# Altium schematic symbol library IC.SchLib: 114 symbols (part 1 of 2)
Pins are listed as number, name and electrical type; pins without a type are passive.

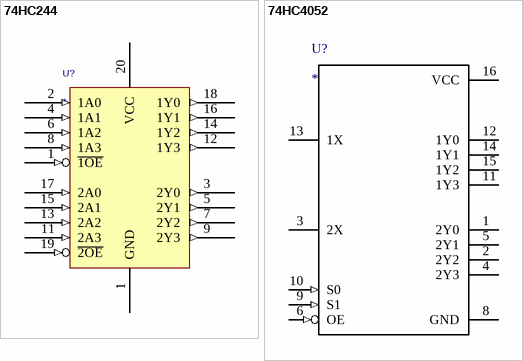
[diagram p0: symbols 74HC244 to 74HC4052]

## 74HC244
designator U?
Octal buffer/line driver; 3-state
pins: 1 ~{1OE} (in), 1 GND, 2 1A0 (in), 3 2Y0 (out), 4 1A1 (in), 5 2Y1 (out), 6 1A2 (in), 7 2Y2 (out), 8 1A3 (in), 9 2Y3 (out), 11 2A3 (in), 12 1Y3 (out), 13 2A2 (in), 14 1Y2 (out), 15 2A1 (in), 16 1Y1 (out), 17 2A0 (in), 18 1Y0 (out), 19 ~{2OE} (in), 20 VCC

## 74HC4052
designator U?
pins: 1 2Y0, 2 2Y2, 3 2X, 4 2Y3, 5 2Y1, 6 OE (in), 8 GND (power), 9 S1 (in), 10 S0 (in), 11 1Y3, 12 1Y0, 13 1X, 14 1Y1, 15 1Y2, 16 VCC (power)

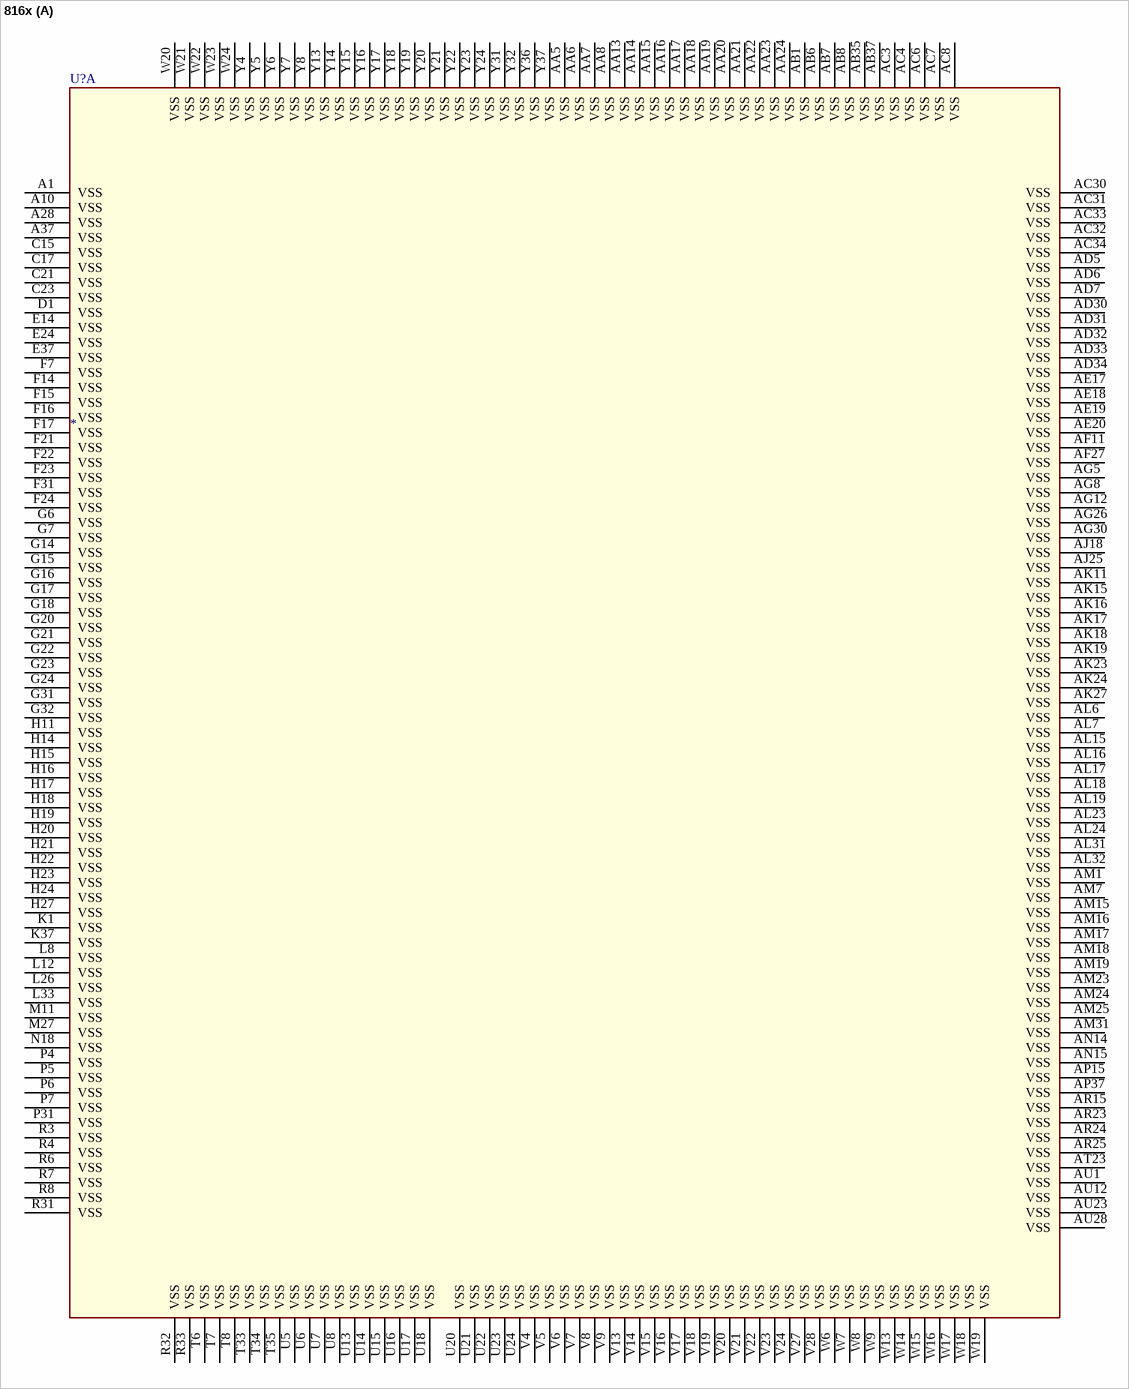
[diagram p1: symbol 816x]

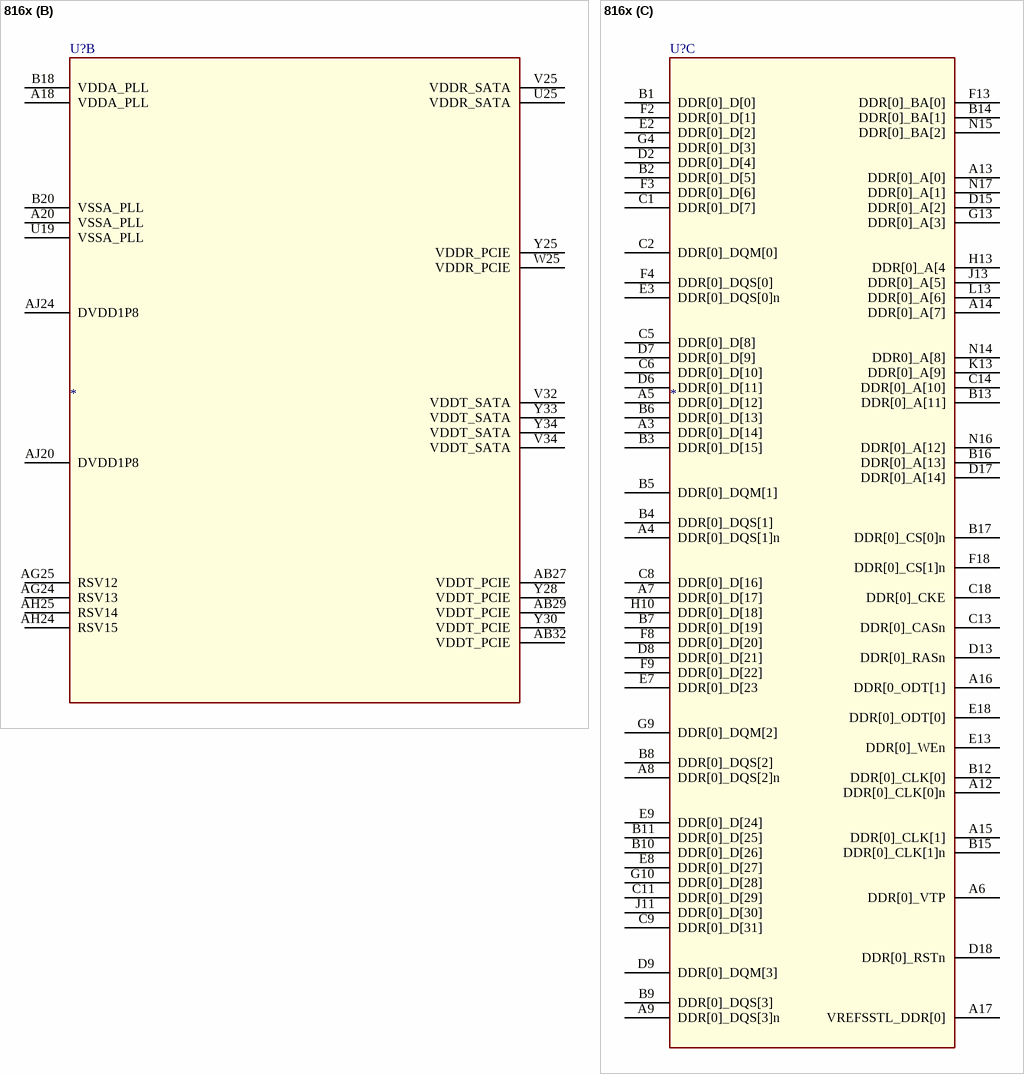
[diagram p2: symbol 816x]

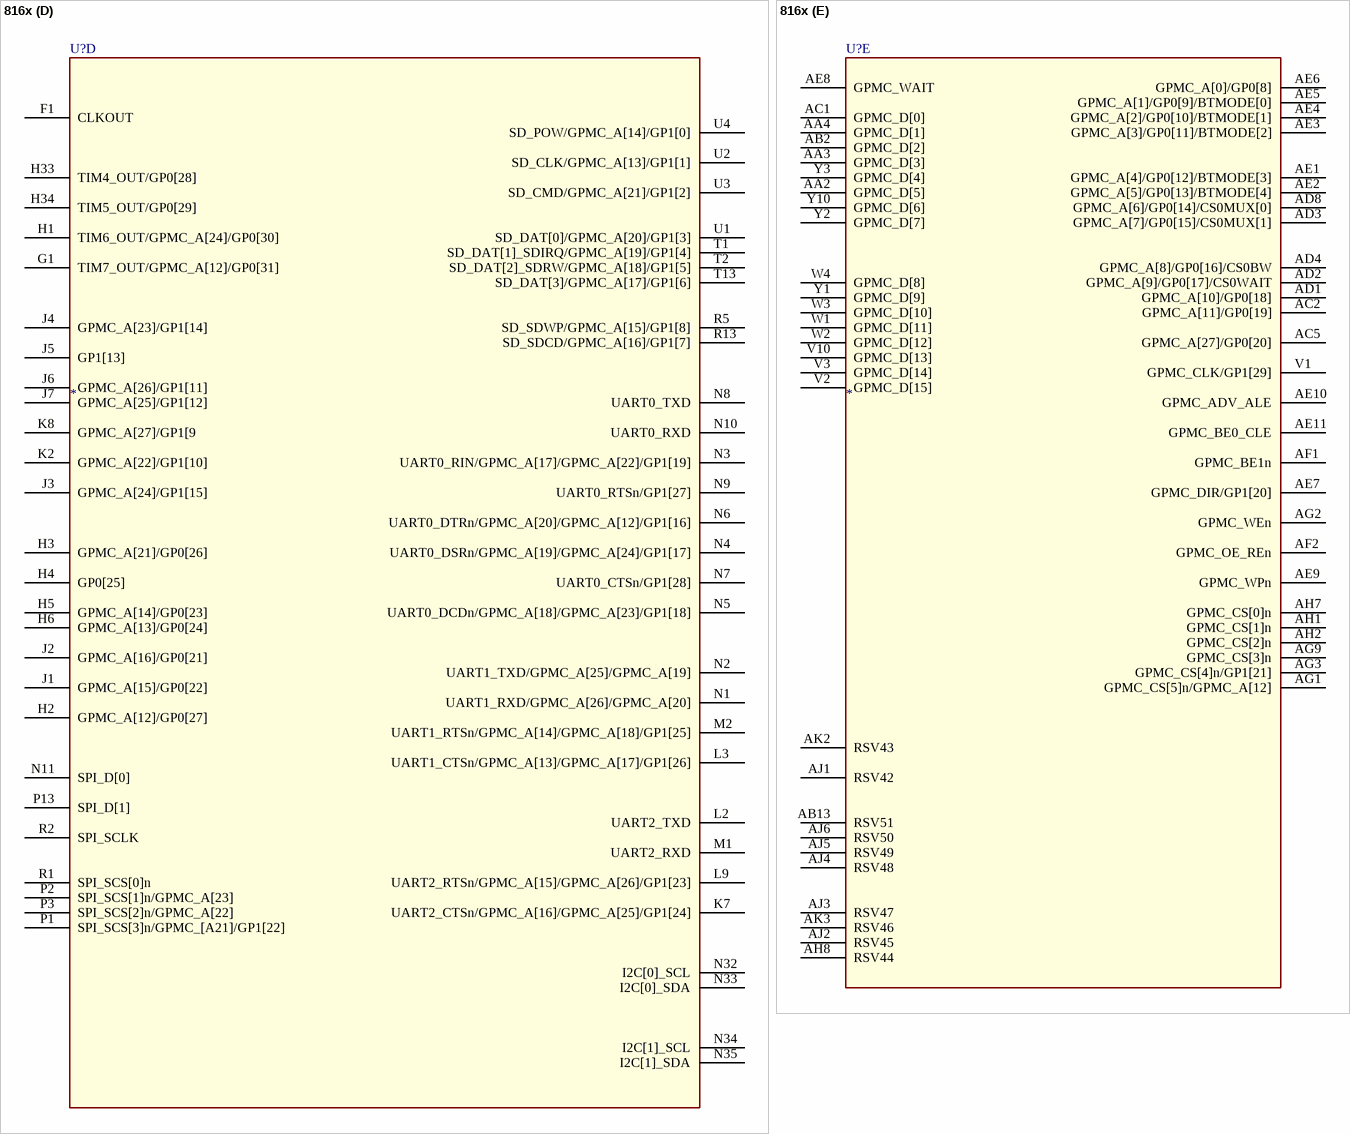
[diagram p3: symbol 816x]

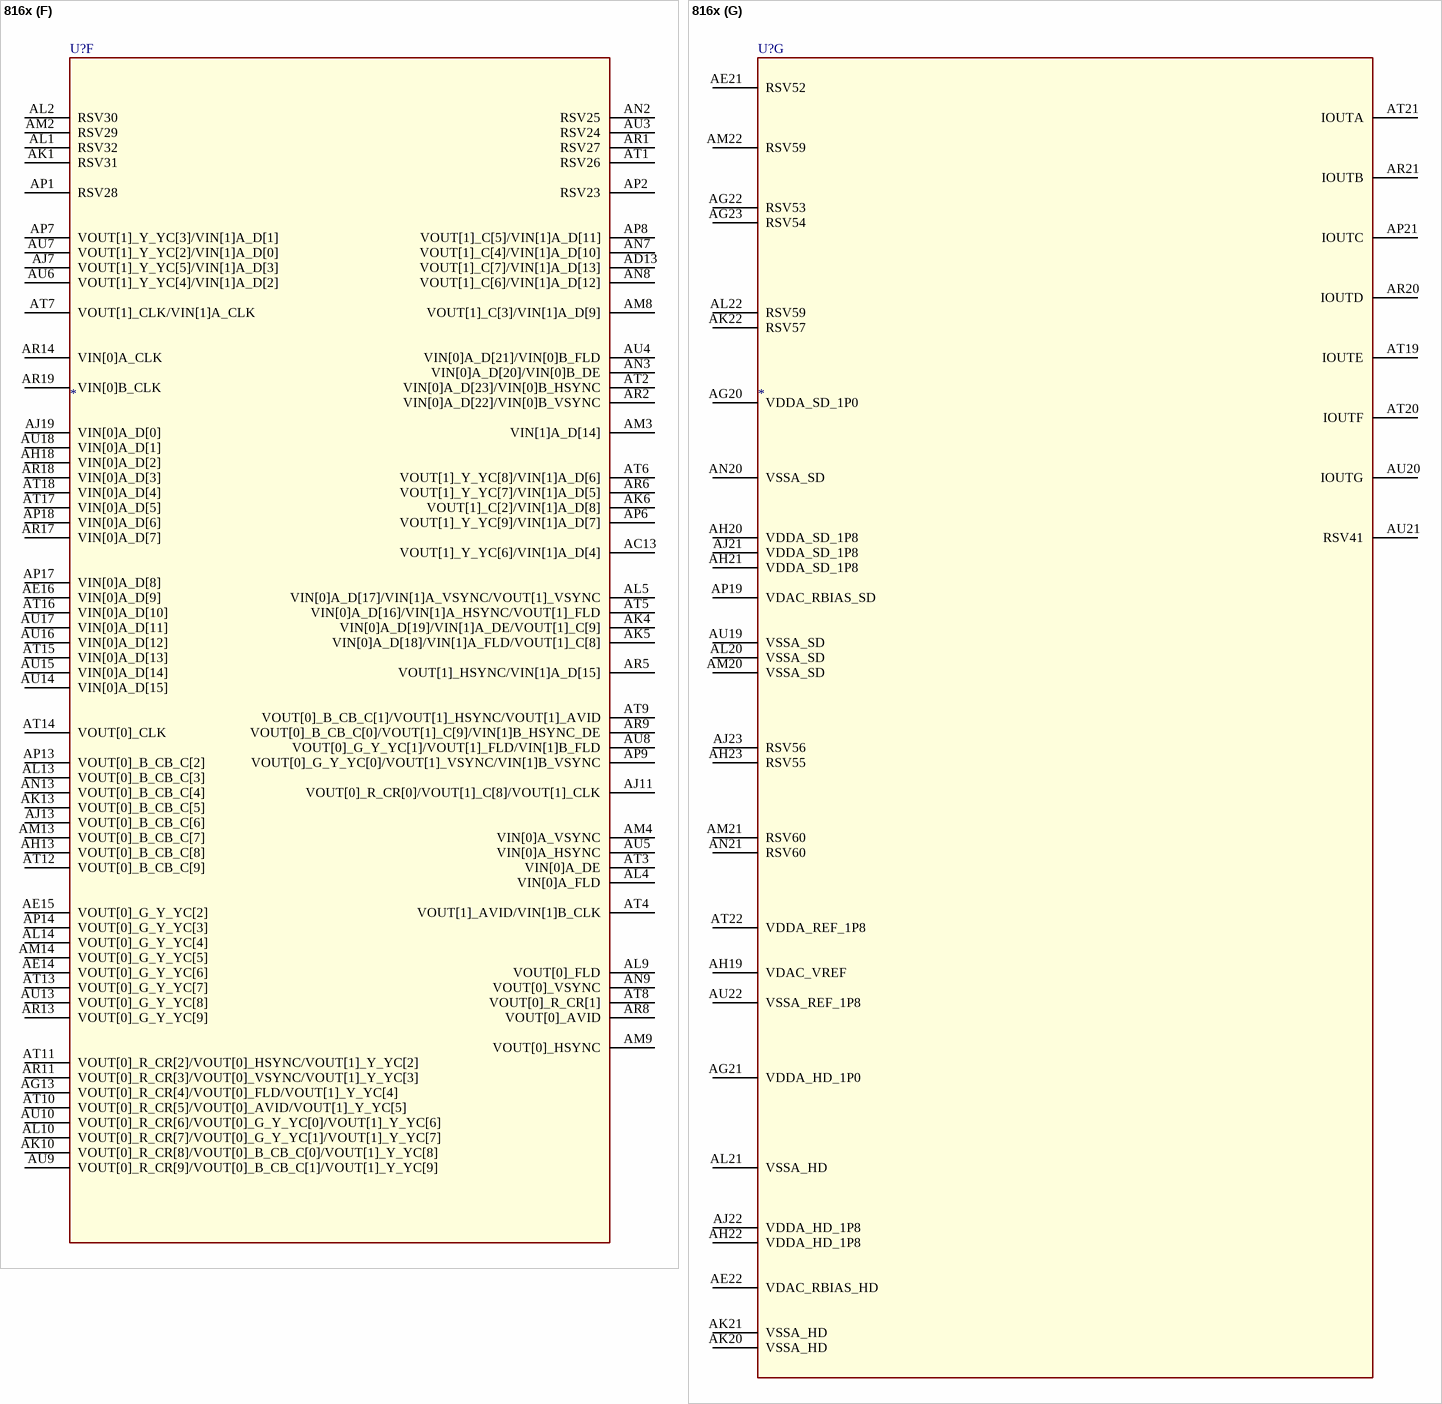
[diagram p4: symbol 816x]

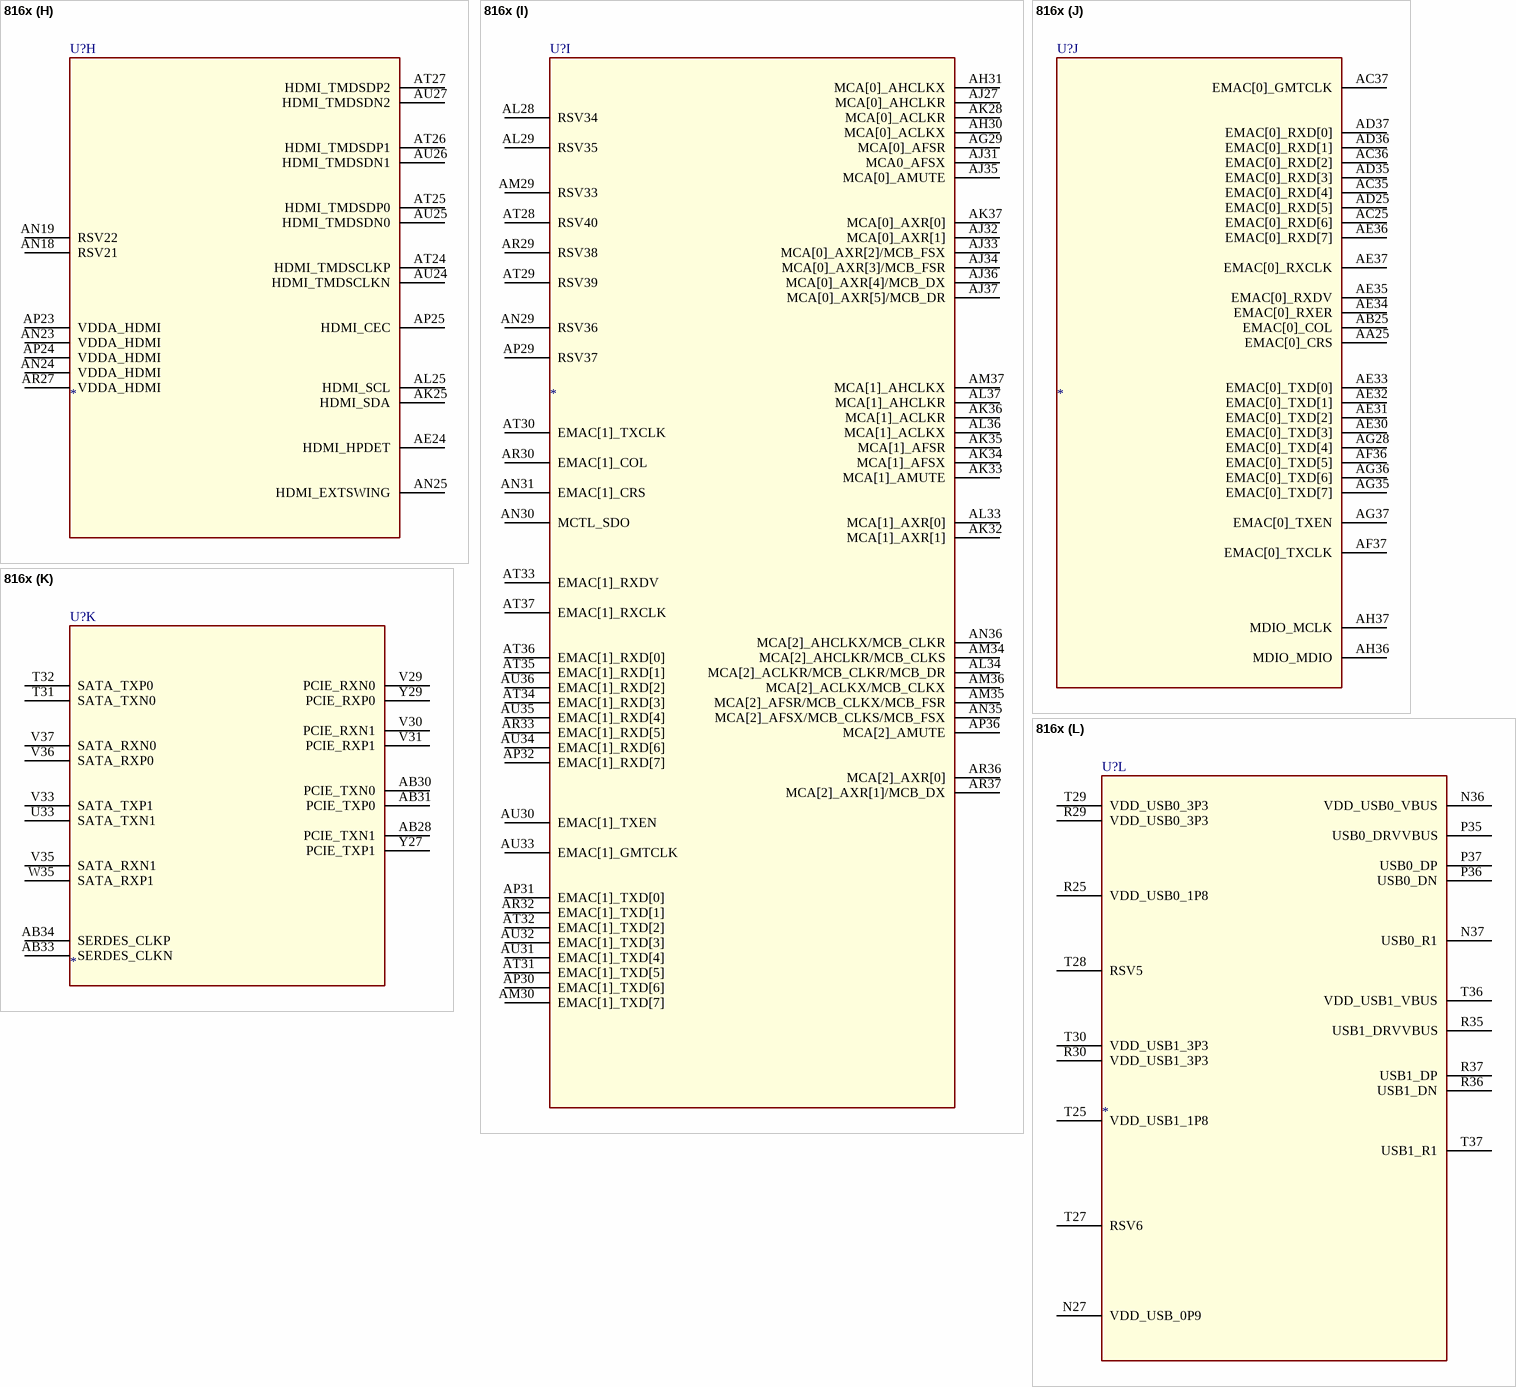
[diagram p5: symbol 816x]

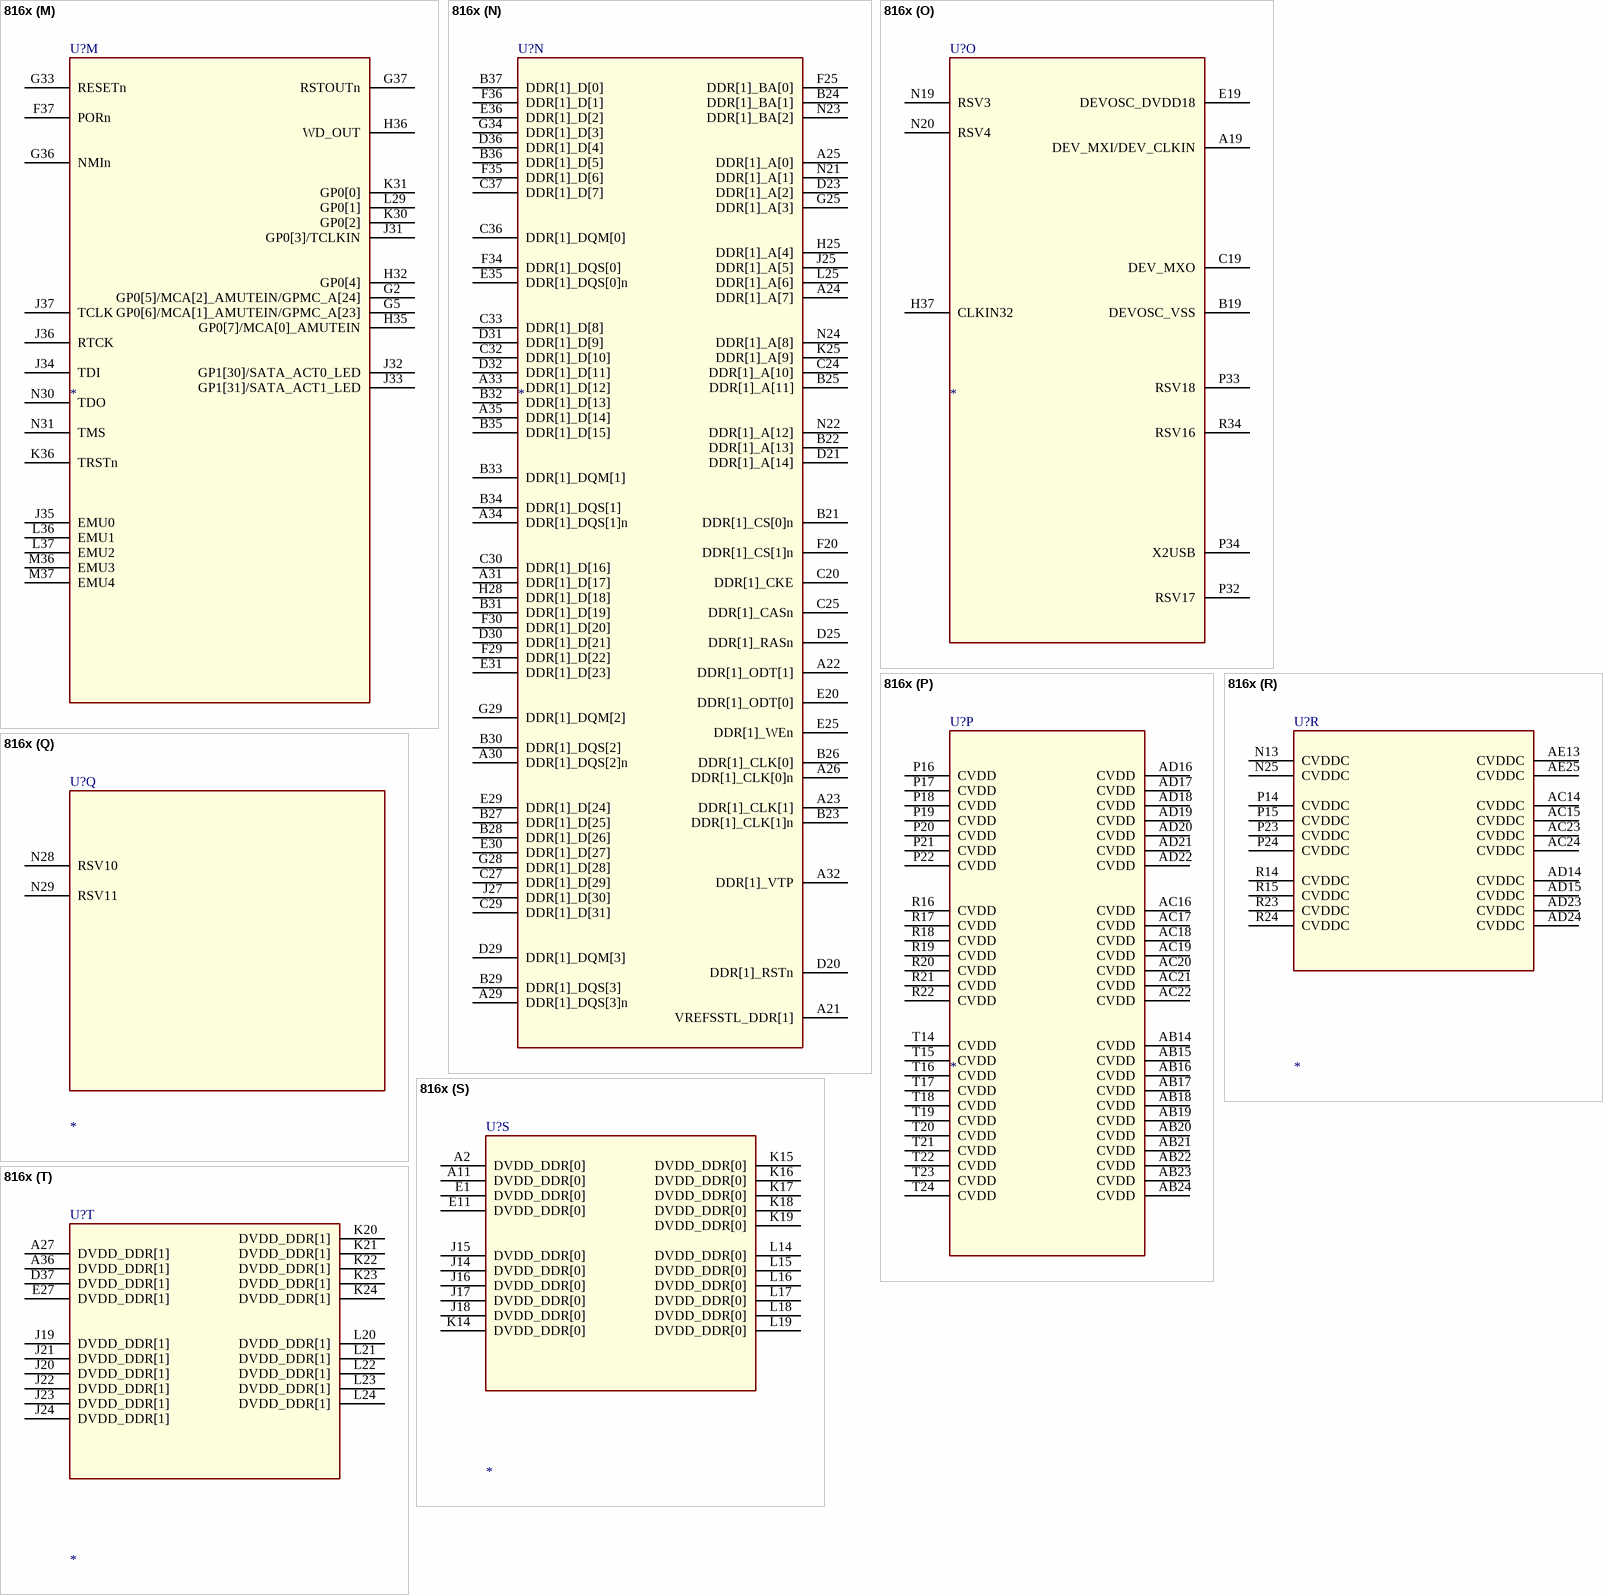
[diagram p6: symbol 816x]

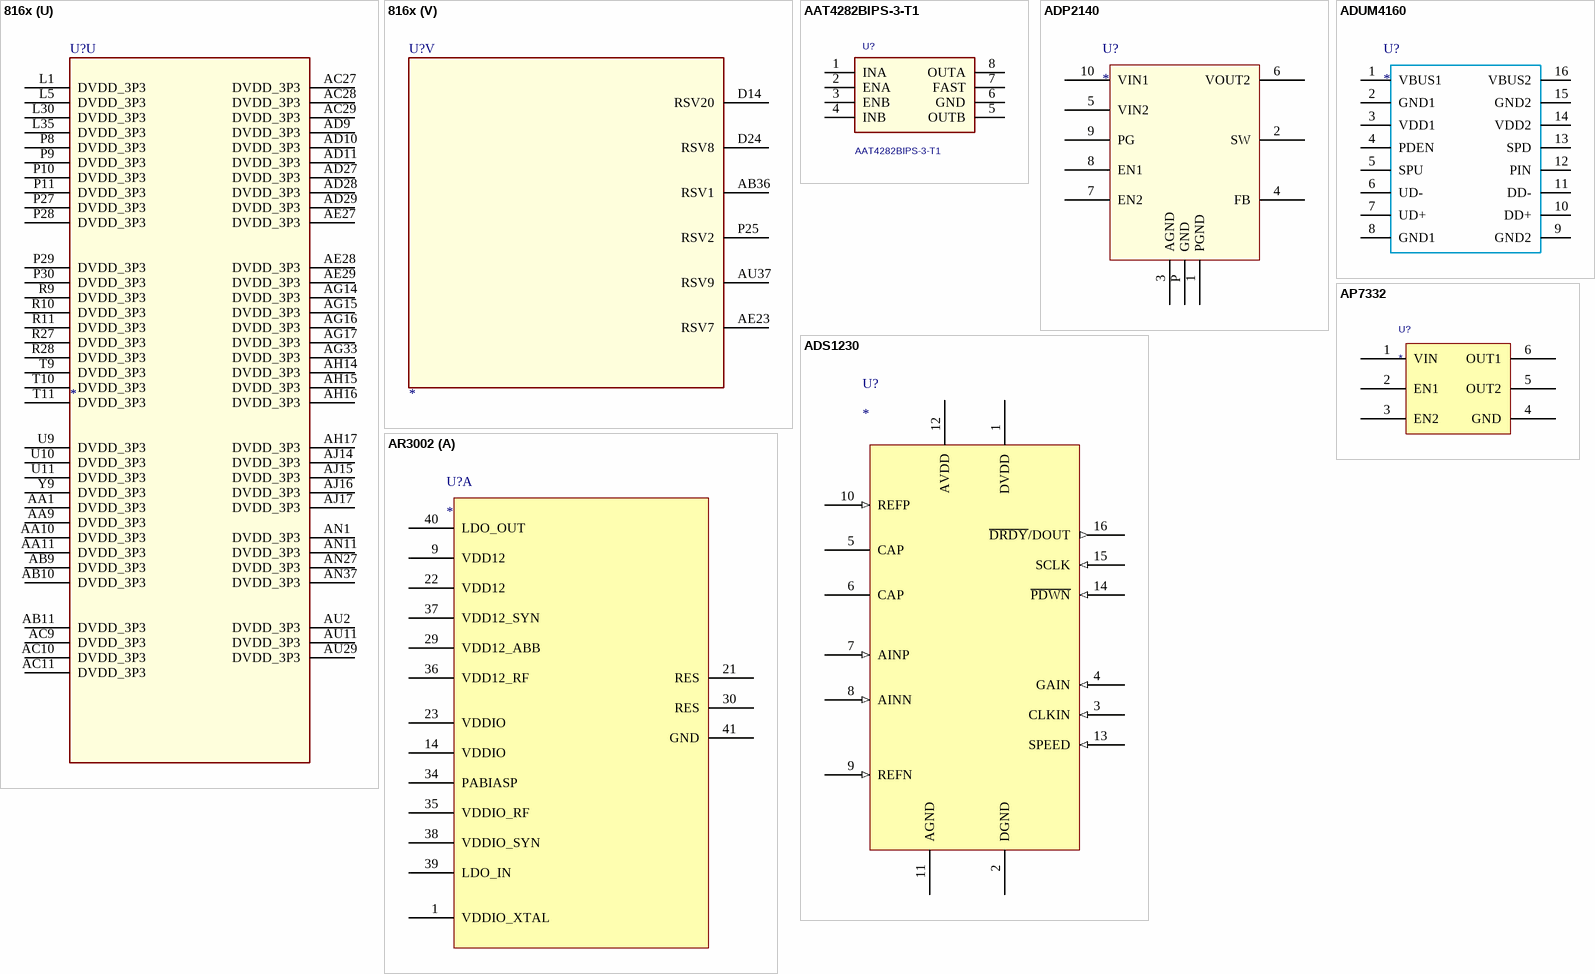
[diagram p7: symbols 816x to AR3002]

## 816x
designator U?
SPLIT_INST: TRUE
footprint sktbga-1031-37x37_c9212_p65mm
part A pins: A1 VSS (power), A10 VSS (power), A28 VSS (power), A37 VSS (power), AA5 VSS (power), AA6 VSS (power), AA7 VSS (power), AA8 VSS (power), AA13 VSS (power), AA14 VSS (power), AA15 VSS (power), AA16 VSS (power), AA17 VSS (power), AA18 VSS (power), AA19 VSS (power), AA20 VSS (power), AA21 VSS (power), AA22 VSS (power), AA23 VSS (power), AA24 VSS (power), AB1 VSS (power), AB6 VSS (power), AB7 VSS (power), AB8 VSS (power), AB35 VSS (power), AB37 VSS (power), AC3 VSS (power), AC4 VSS (power), AC6 VSS (power), AC7 VSS (power), AC8 VSS (power), AC30 VSS (power), AC31 VSS (power), AC32 VSS (power), AC33 VSS (power), AC34 VSS (power), AD5 VSS (power), AD6 VSS (power), AD7 VSS (power), AD30 VSS (power), AD31 VSS (power), AD32 VSS (power), AD33 VSS (power), AD34 VSS (power), AE17 VSS (power), AE18 VSS (power), AE19 VSS (power), AE20 VSS (power), AF11 VSS (power), AF27 VSS (power), AG5 VSS (power), AG8 VSS (power), AG12 VSS (power), AG26 VSS (power), AG30 VSS (power), AJ18 VSS (power), AJ25 VSS (power), AK11 VSS (power), AK15 VSS (power), AK16 VSS (power), AK17 VSS (power), AK18 VSS (power), AK19 VSS (power), AK23 VSS (power), AK24 VSS (power), AK27 VSS (power), AL6 VSS (power), AL7 VSS (power), AL15 VSS (power), AL16 VSS (power), AL17 VSS (power), AL18 VSS (power), AL19 VSS (power), AL23 VSS (power), AL24 VSS (power), AL31 VSS (power), AL32 VSS (power), AM1 VSS (power), AM7 VSS (power), AM15 VSS (power), AM16 VSS (power), AM17 VSS (power), AM18 VSS (power), AM19 VSS (power), AM23 VSS (power), AM24 VSS (power), AM25 VSS (power), AM31 VSS (power), AN14 VSS (power), AN15 VSS (power), AP15 VSS (power), AP37 VSS (power), AR15 VSS (power), AR23 VSS (power), AR24 VSS (power), AR25 VSS (power), AT23 VSS (power), AU1 VSS (power), AU12 VSS (power), AU23 VSS (power), AU28 VSS (power), C15 VSS (power), C17 VSS (power), C21 VSS (power), C23 VSS (power), D1 VSS (power), E14 VSS (power), E24 VSS (power), E37 VSS (power), F7 VSS (power), F14 VSS (power), F15 VSS (power), F16 VSS (power), F17 VSS (power), F21 VSS (power), F22 VSS (power), F23 VSS (power), F24 VSS (power), F31 VSS (power), G6 VSS (power), G7 VSS (power), G14 VSS (power), G15 VSS (power), G16 VSS (power), G17 VSS (power), G18 VSS (power), G20 VSS (power), G21 VSS (power), G22 VSS (power), G23 VSS (power), G24 VSS (power), G31 VSS (power), G32 VSS (power), H11 VSS (power), H14 VSS (power), H15 VSS (power), H16 VSS (power), H17 VSS (power), H18 VSS (power), H19 VSS (power), H20 VSS (power), H21 VSS (power), H22 VSS (power), H23 VSS (power), H24 VSS (power), H27 VSS (power), K1 VSS (power), K37 VSS (power), L8 VSS (power), L12 VSS (power), L26 VSS (power), L33 VSS (power), M11 VSS (power), M27 VSS (power), N18 VSS (power), P4 VSS (power), P5 VSS (power), P6 VSS (power), P7 VSS (power), P31 VSS (power), R3 VSS (power), R4 VSS (power), R6 VSS (power), R7 VSS (power), R8 VSS (power), R31 VSS (power), R32 VSS (power), R33 VSS (power), T6 VSS (power), T7 VSS (power), T8 VSS (power), T33 VSS (power), T34 VSS (power), T35 VSS (power), U5 VSS (power), U6 VSS (power), U7 VSS (power), U8 VSS (power), U13 VSS (power), U14 VSS (power), U15 VSS (power), U16 VSS (power), U17 VSS (power), U18 VSS (power), U20 VSS (power), U21 VSS (power), U22 VSS (power), U23 VSS (power), U24 VSS (power), V4 VSS (power), V5 VSS (power), V6 VSS (power), V7 VSS (power), V8 VSS (power), V9 VSS (power), V13 VSS (power), V14 VSS (power), V15 VSS (power), V16 VSS (power), V17 VSS (power), V18 VSS (power), V19 VSS (power), V20 VSS (power), V21 VSS (power), V22 VSS (power), V23 VSS (power), V24 VSS (power), V27 VSS (power), V28 VSS (power), W6 VSS (power), W7 VSS (power), W8 VSS (power), W9 VSS (power), W13 VSS (power), W14 VSS (power), W15 VSS (power), W16 VSS (power), W17 VSS (power), W18 VSS (power), W19 VSS (power), W20 VSS (power), W21 VSS (power), W22 VSS (power), W23 VSS (power), W24 VSS (power), Y4 VSS (power), Y5 VSS (power), Y6 VSS (power), Y7 VSS (power), Y8 VSS (power), Y13 VSS (power), Y14 VSS (power), Y15 VSS (power), Y16 VSS (power), Y17 VSS (power), Y18 VSS (power), Y19 VSS (power), Y20 VSS (power), Y21 VSS (power), Y22 VSS (power), Y23 VSS (power), Y24 VSS (power), Y31 VSS (power), Y32 VSS (power), Y36 VSS (power), Y37 VSS (power)
part B pins: A18 VDDA_PLL (power), A20 VSSA_PLL (power), AB27 VDDT_PCIE (power), AB29 VDDT_PCIE (power), AB32 VDDT_PCIE (power), AG24 RSV13 (power), AG25 RSV12 (power), AH24 RSV15 (power), AH25 RSV14 (power), AJ20 DVDD1P8 (power), AJ24 DVDD1P8 (power), B18 VDDA_PLL (power), B20 VSSA_PLL (power), U19 VSSA_PLL (power), U25 VDDR_SATA (power), V25 VDDR_SATA (power), V32 VDDT_SATA (power), V34 VDDT_SATA (power), W25 VDDR_PCIE (power), Y25 VDDR_PCIE (power), Y28 VDDT_PCIE (power), Y30 VDDT_PCIE (power), Y33 VDDT_SATA (power), Y34 VDDT_SATA (power)
part C pins: A3 DDR[0]_D[14], A4 DDR[0]_DQS[1]n, A5 DDR[0]_D[12], A6 DDR[0]_VTP, A7 DDR[0]_D[17], A8 DDR[0]_DQS[2]n, A9 DDR[0]_DQS[3]n, A12 DDR[0]_CLK[0]n, A13 DDR[0]_A[0], A14 DDR[0]_A[7], A15 DDR[0]_CLK[1], A16 DDR[0_ODT[1], A17 VREFSSTL_DDR[0], B1 DDR[0]_D[0], B2 DDR[0]_D[5], B3 DDR[0]_D[15], B4 DDR[0]_DQS[1], B5 DDR[0]_DQM[1], B6 DDR[0]_D[13], B7 DDR[0]_D[19], B8 DDR[0]_DQS[2], B9 DDR[0]_DQS[3], B10 DDR[0]_D[26], B11 DDR[0]_D[25], B12 DDR[0]_CLK[0], B13 DDR[0]_A[11], B14 DDR[0]_BA[1], B15 DDR[0]_CLK[1]n, B16 DDR[0]_A[13], B17 DDR[0]_CS[0]n, C1 DDR[0]_D[7], C2 DDR[0]_DQM[0], C5 DDR[0]_D[8], C6 DDR[0]_D[10], C8 DDR[0]_D[16], C9 DDR[0]_D[31], C11 DDR[0]_D[29], C13 DDR[0]_CASn, C14 DDR[0]_A[10], C18 DDR[0]_CKE, D2 DDR[0]_D[4], D6 DDR[0]_D[11], D7 DDR[0]_D[9], D8 DDR[0]_D[21], D9 DDR[0]_DQM[3], D13 DDR[0]_RASn, D15 DDR[0]_A[2], D17 DDR[0]_A[14], D18 DDR[0]_RSTn, E2 DDR[0]_D[2], E3 DDR[0]_DQS[0]n, E7 DDR[0]_D[23, E8 DDR[0]_D[27], E9 DDR[0]_D[24], E13 DDR[0]_WEn, E18 DDR[0]_ODT[0], F2 DDR[0]_D[1], F3 DDR[0]_D[6], F4 DDR[0]_DQS[0], F8 DDR[0]_D[20], F9 DDR[0]_D[22], F13 DDR[0]_BA[0], F18 DDR[0]_CS[1]n, G4 DDR[0]_D[3], G9 DDR[0]_DQM[2], G10 DDR[0]_D[28], G13 DDR[0]_A[3], H10 DDR[0]_D[18], H13 DDR[0]_A[4, J11 DDR[0]_D[30], J13 DDR[0]_A[5], K13 DDR[0]_A[9], L13 DDR[0]_A[6], N14 DDR0]_A[8], N15 DDR[0]_BA[2], N16 DDR[0]_A[12], N17 DDR[0]_A[1]
part D pins: F1 CLKOUT, G1 TIM7_OUT/GPMC_A[12]/GP0[31], H1 TIM6_OUT/GPMC_A[24]/GP0[30], H2 GPMC_A[12]/GP0[27], H3 GPMC_A[21]/GP0[26], H4 GP0[25], H5 GPMC_A[14]/GP0[23], H6 GPMC_A[13]/GP0[24], H33 TIM4_OUT/GP0[28], H34 TIM5_OUT/GP0[29], J1 GPMC_A[15]/GP0[22], J2 GPMC_A[16]/GP0[21], J3 GPMC_A[24]/GP1[15], J4 GPMC_A[23]/GP1[14], J5 GP1[13], J6 GPMC_A[26]/GP1[11], J7 GPMC_A[25]/GP1[12], K2 GPMC_A[22]/GP1[10], K7 UART2_CTSn/GPMC_A[16]/GPMC_A[25]/GP1[24], K8 GPMC_A[27]/GP1[9, L2 UART2_TXD, L3 UART1_CTSn/GPMC_A[13]/GPMC_A[17]/GP1[26], L9 UART2_RTSn/GPMC_A[15]/GPMC_A[26]/GP1[23], M1 UART2_RXD, M2 UART1_RTSn/GPMC_A[14]/GPMC_A[18]/GP1[25], N1 UART1_RXD/GPMC_A[26]/GPMC_A[20], N2 UART1_TXD/GPMC_A[25]/GPMC_A[19], N3 UART0_RIN/GPMC_A[17]/GPMC_A[22]/GP1[19], N4 UART0_DSRn/GPMC_A[19]/GPMC_A[24]/GP1[17], N5 UART0_DCDn/GPMC_A[18]/GPMC_A[23]/GP1[18], N6 UART0_DTRn/GPMC_A[20]/GPMC_A[12]/GP1[16], N7 UART0_CTSn/GP1[28], N8 UART0_TXD, N9 UART0_RTSn/GP1[27], N10 UART0_RXD, N11 SPI_D[0], N32 I2C[0]_SCL, N33 I2C[0]_SDA, N34 I2C[1]_SCL, N35 I2C[1]_SDA, P1 SPI_SCS[3]n/GPMC_[A21]/GP1[22], P2 SPI_SCS[1]n/GPMC_A[23], P3 SPI_SCS[2]n/GPMC_A[22], P13 SPI_D[1], R1 SPI_SCS[0]n, R2 SPI_SCLK, R5 SD_SDWP/GPMC_A[15]/GP1[8], R13 SD_SDCD/GPMC_A[16]/GP1[7], T1 SD_DAT[1]_SDIRQ/GPMC_A[19]/GP1[4], T2 SD_DAT[2]_SDRW/GPMC_A[18]/GP1[5], T13 SD_DAT[3]/GPMC_A[17]/GP1[6], U1 SD_DAT[0]/GPMC_A[20]/GP1[3], U2 SD_CLK/GPMC_A[13]/GP1[1], U3 SD_CMD/GPMC_A[21]/GP1[2], U4 SD_POW/GPMC_A[14]/GP1[0]
part E pins: AA2 GPMC_D[5], AA3 GPMC_D[3], AA4 GPMC_D[1], AB2 GPMC_D[2], AB13 RSV51, AC1 GPMC_D[0], AC2 GPMC_A[11]/GP0[19], AC5 GPMC_A[27]/GP0[20], AD1 GPMC_A[10]/GP0[18], AD2 GPMC_A[9]/GP0[17]/CS0WAIT, AD3 GPMC_A[7]/GP0[15]/CS0MUX[1], AD4 GPMC_A[8]/GP0[16]/CS0BW, AD8 GPMC_A[6]/GP0[14]/CS0MUX[0], AE1 GPMC_A[4]/GP0[12]/BTMODE[3], AE2 GPMC_A[5]/GP0[13]/BTMODE[4], AE3 GPMC_A[3]/GP0[11]/BTMODE[2], AE4 GPMC_A[2]/GP0[10]/BTMODE[1], AE5 GPMC_A[1]/GP0[9]/BTMODE[0], AE6 GPMC_A[0]/GP0[8], AE7 GPMC_DIR/GP1[20], AE8 GPMC_WAIT, AE9 GPMC_WPn, AE10 GPMC_ADV_ALE, AE11 GPMC_BE0_CLE, AF1 GPMC_BE1n, AF2 GPMC_OE_REn, AG1 GPMC_CS[5]n/GPMC_A[12], AG2 GPMC_WEn, AG3 GPMC_CS[4]n/GP1[21], AG9 GPMC_CS[3]n, AH1 GPMC_CS[1]n, AH2 GPMC_CS[2]n, AH7 GPMC_CS[0]n, AH8 RSV44, AJ1 RSV42, AJ2 RSV45, AJ3 RSV47, AJ4 RSV48, AJ5 RSV49, AJ6 RSV50, AK2 RSV43, AK3 RSV46, V1 GPMC_CLK/GP1[29], V2 GPMC_D[15], V3 GPMC_D[14], V10 GPMC_D[13], W1 GPMC_D[11], W2 GPMC_D[12], W3 GPMC_D[10], W4 GPMC_D[8], Y1 GPMC_D[9], Y2 GPMC_D[7], Y3 GPMC_D[4], Y10 GPMC_D[6]
part F pins: AC13 VOUT[1]_Y_YC[6]/VIN[1]A_D[4], AD13 VOUT[1]_C[7]/VIN[1]A_D[13], AE14 VOUT[0]_G_Y_YC[6], AE15 VOUT[0]_G_Y_YC[2], AE16 VIN[0]A_D[9], AG13 VOUT[0]_R_CR[4]/VOUT[0]_FLD/VOUT[1]_Y_YC[4], AH13 VOUT[0]_B_CB_C[8], AH18 VIN[0]A_D[2], AJ7 VOUT[1]_Y_YC[5]/VIN[1]A_D[3], AJ11 VOUT[0]_R_CR[0]/VOUT[1]_C[8]/VOUT[1]_CLK, AJ13 VOUT[0]_B_CB_C[6], AJ19 VIN[0]A_D[0], AK1 RSV31, AK4 VIN[0]A_D[19]/VIN[1]A_DE/VOUT[1]_C[9], AK5 VIN[0]A_D[18]/VIN[1]A_FLD/VOUT[1]_C[8], AK6 VOUT[1]_C[2]/VIN[1]A_D[8], AK10 VOUT[0]_R_CR[8]/VOUT[0]_B_CB_C[0]/VOUT[1]_Y_YC[8], AK13 VOUT[0]_B_CB_C[5], AL1 RSV32, AL2 RSV30, AL4 VIN[0]A_FLD, AL5 VIN[0]A_D[17]/VIN[1]A_VSYNC/VOUT[1]_VSYNC, AL9 VOUT[0]_FLD, AL10 VOUT[0]_R_CR[7]/VOUT[0]_G_Y_YC[1]/VOUT[1]_Y_YC[7], AL13 VOUT[0]_B_CB_C[3], AL14 VOUT[0]_G_Y_YC[4], AM2 RSV29, AM3 VIN[1]A_D[14], AM4 VIN[0]A_VSYNC, AM8 VOUT[1]_C[3]/VIN[1]A_D[9], AM9 VOUT[0]_HSYNC, AM13 VOUT[0]_B_CB_C[7], AM14 VOUT[0]_G_Y_YC[5], AN2 RSV25, AN3 VIN[0]A_D[20]/VIN[0]B_DE, AN7 VOUT[1]_C[4]/VIN[1]A_D[10], AN8 VOUT[1]_C[6]/VIN[1]A_D[12], AN9 VOUT[0]_VSYNC, AN13 VOUT[0]_B_CB_C[4], AP1 RSV28, AP2 RSV23, AP6 VOUT[1]_Y_YC[9]/VIN[1]A_D[7], AP7 VOUT[1]_Y_YC[3]/VIN[1]A_D[1], AP8 VOUT[1]_C[5]/VIN[1]A_D[11], AP9 VOUT[0]_G_Y_YC[0]/VOUT[1]_VSYNC/VIN[1]B_VSYNC, AP13 VOUT[0]_B_CB_C[2], AP14 VOUT[0]_G_Y_YC[3], AP17 VIN[0]A_D[8], AP18 VIN[0]A_D[6], AR1 RSV27, AR2 VIN[0]A_D[22]/VIN[0]B_VSYNC, AR5 VOUT[1]_HSYNC/VIN[1]A_D[15], AR6 VOUT[1]_Y_YC[7]/VIN[1]A_D[5], AR8 VOUT[0]_AVID, AR9 VOUT[0]_B_CB_C[0]/VOUT[1]_C[9]/VIN[1]B_HSYNC_DE, AR11 VOUT[0]_R_CR[3]/VOUT[0]_VSYNC/VOUT[1]_Y_YC[3], AR13 VOUT[0]_G_Y_YC[9], AR14 VIN[0]A_CLK, AR17 VIN[0]A_D[7], AR18 VIN[0]A_D[3], AR19 VIN[0]B_CLK, AT1 RSV26, AT2 VIN[0]A_D[23]/VIN[0]B_HSYNC, AT3 VIN[0]A_DE, AT4 VOUT[1]_AVID/VIN[1]B_CLK, AT5 VIN[0]A_D[16]/VIN[1]A_HSYNC/VOUT[1]_FLD, AT6 VOUT[1]_Y_YC[8]/VIN[1]A_D[6], AT7 VOUT[1]_CLK/VIN[1]A_CLK, AT8 VOUT[0]_R_CR[1], AT9 VOUT[0]_B_CB_C[1]/VOUT[1]_HSYNC/VOUT[1]_AVID, AT10 VOUT[0]_R_CR[5]/VOUT[0]_AVID/VOUT[1]_Y_YC[5], AT11 VOUT[0]_R_CR[2]/VOUT[0]_HSYNC/VOUT[1]_Y_YC[2], AT12 VOUT[0]_B_CB_C[9], AT13 VOUT[0]_G_Y_YC[7], AT14 VOUT[0]_CLK, AT15 VIN[0]A_D[13], AT16 VIN[0]A_D[10], AT17 VIN[0]A_D[5], AT18 VIN[0]A_D[4], AU3 RSV24, AU4 VIN[0]A_D[21]/VIN[0]B_FLD, AU5 VIN[0]A_HSYNC, AU6 VOUT[1]_Y_YC[4]/VIN[1]A_D[2], AU7 VOUT[1]_Y_YC[2]/VIN[1]A_D[0], AU8 VOUT[0]_G_Y_YC[1]/VOUT[1]_FLD/VIN[1]B_FLD, AU9 VOUT[0]_R_CR[9]/VOUT[0]_B_CB_C[1]/VOUT[1]_Y_YC[9], AU10 VOUT[0]_R_CR[6]/VOUT[0]_G_Y_YC[0]/VOUT[1]_Y_YC[6], AU13 VOUT[0]_G_Y_YC[8], AU14 VIN[0]A_D[15], AU15 VIN[0]A_D[14], AU16 VIN[0]A_D[12], AU17 VIN[0]A_D[11], AU18 VIN[0]A_D[1]
part G pins: AE21 RSV52 (power), AE22 VDAC_RBIAS_HD, AG20 VDDA_SD_1P0 (power), AG21 VDDA_HD_1P0 (power), AG22 RSV53 (power), AG23 RSV54 (power), AH19 VDAC_VREF, AH20 VDDA_SD_1P8 (power), AH21 VDDA_SD_1P8 (power), AH22 VDDA_HD_1P8 (power), AH23 RSV55 (power), AJ21 VDDA_SD_1P8 (power), AJ22 VDDA_HD_1P8 (power), AJ23 RSV56 (power), AK20 VSSA_HD (power), AK21 VSSA_HD (power), AK22 RSV57 (power), AL20 VSSA_SD (power), AL21 VSSA_HD (power), AL22 RSV59 (power), AM20 VSSA_SD (power), AM21 RSV60 (power), AM22 RSV59 (power), AN20 VSSA_SD (power), AN21 RSV60 (power), AP19 VDAC_RBIAS_SD, AP21 IOUTC, AR20 IOUTD, AR21 IOUTB, AT19 IOUTE, AT20 IOUTF, AT21 IOUTA, AT22 VDDA_REF_1P8 (power), AU19 VSSA_SD (power), AU20 IOUTG, AU21 RSV41, AU22 VSSA_REF_1P8 (power)
part H pins: AE24 HDMI_HPDET, AK25 HDMI_SDA, AL25 HDMI_SCL, AN18 RSV21, AN19 RSV22, AN23 VDDA_HDMI (power), AN24 VDDA_HDMI (power), AN25 HDMI_EXTSWING, AP23 VDDA_HDMI (power), AP24 VDDA_HDMI (power), AP25 HDMI_CEC, AR27 VDDA_HDMI (power), AT24 HDMI_TMDSCLKP, AT25 HDMI_TMDSDP0, AT26 HDMI_TMDSDP1, AT27 HDMI_TMDSDP2, AU24 HDMI_TMDSCLKN, AU25 HDMI_TMDSDN0, AU26 HDMI_TMDSDN1, AU27 HDMI_TMDSDN2
part I pins: AG29 MCA[0]_AFSR, AH30 MCA[0]_ACLKX, AH31 MCA[0]_AHCLKX, AJ27 MCA[0]_AHCLKR, AJ31 MCA0_AFSX, AJ32 MCA[0]_AXR[1], AJ33 MCA[0]_AXR[2]/MCB_FSX, AJ34 MCA[0]_AXR[3]/MCB_FSR, AJ35 MCA[0]_AMUTE, AJ36 MCA[0]_AXR[4]/MCB_DX, AJ37 MCA[0]_AXR[5]/MCB_DR, AK28 MCA[0]_ACLKR, AK32 MCA[1]_AXR[1], AK33 MCA[1]_AMUTE, AK34 MCA[1]_AFSX, AK35 MCA[1]_AFSR, AK36 MCA[1]_ACLKR, AK37 MCA[0]_AXR[0], AL28 RSV34, AL29 RSV35, AL33 MCA[1]_AXR[0], AL34 MCA[2]_ACLKR/MCB_CLKR/MCB_DR, AL36 MCA[1]_ACLKX, AL37 MCA[1]_AHCLKR, AM29 RSV33, AM30 EMAC[1]_TXD[7], AM34 MCA[2]_AHCLKR/MCB_CLKS, AM35 MCA[2]_AFSR/MCB_CLKX/MCB_FSR, AM36 MCA[2]_ACLKX/MCB_CLKX, AM37 MCA[1]_AHCLKX, AN29 RSV36, AN30 MCTL_SDO, AN31 EMAC[1]_CRS, AN35 MCA[2]_AFSX/MCB_CLKS/MCB_FSX, AN36 MCA[2]_AHCLKX/MCB_CLKR, AP29 RSV37, AP30 EMAC[1]_TXD[6], AP31 EMAC[1]_TXD[0], AP32 EMAC[1]_RXD[7], AP36 MCA[2]_AMUTE, AR29 RSV38, AR30 EMAC[1]_COL, AR32 EMAC[1]_TXD[1], AR33 EMAC[1]_RXD[5], AR36 MCA[2]_AXR[0], AR37 MCA[2]_AXR[1]/MCB_DX, AT28 RSV40, AT29 RSV39, AT30 EMAC[1]_TXCLK, AT31 EMAC[1]_TXD[5], AT32 EMAC[1]_TXD[2], AT33 EMAC[1]_RXDV, AT34 EMAC[1]_RXD[3], AT35 EMAC[1]_RXD[1], AT36 EMAC[1]_RXD[0], AT37 EMAC[1]_RXCLK, AU30 EMAC[1]_TXEN, AU31 EMAC[1]_TXD[4], AU32 EMAC[1]_TXD[3], AU33 EMAC[1]_GMTCLK, AU34 EMAC[1]_RXD[6], AU35 EMAC[1]_RXD[4], AU36 EMAC[1]_RXD[2]
part J pins: AA25 EMAC[0]_CRS, AB25 EMAC[0]_COL, AC25 EMAC[0]_RXD[6], AC35 EMAC[0]_RXD[4], AC36 EMAC[0]_RXD[2], AC37 EMAC[0]_GMTCLK, AD25 EMAC[0]_RXD[5], AD35 EMAC[0]_RXD[3], AD36 EMAC[0]_RXD[1], AD37 EMAC[0]_RXD[0], AE30 EMAC[0]_TXD[3], AE31 EMAC[0]_TXD[2], AE32 EMAC[0]_TXD[1], AE33 EMAC[0]_TXD[0], AE34 EMAC[0]_RXER, AE35 EMAC[0]_RXDV, AE36 EMAC[0]_RXD[7], AE37 EMAC[0]_RXCLK, AF36 EMAC[0]_TXD[5], AF37 EMAC[0]_TXCLK, AG28 EMAC[0]_TXD[4], AG35 EMAC[0]_TXD[7], AG36 EMAC[0]_TXD[6], AG37 EMAC[0]_TXEN, AH36 MDIO_MDIO, AH37 MDIO_MCLK
part K pins: AB28 PCIE_TXN1, AB30 PCIE_TXN0, AB31 PCIE_TXP0, AB33 SERDES_CLKN, AB34 SERDES_CLKP, T31 SATA_TXN0, T32 SATA_TXP0, U33 SATA_TXN1, V29 PCIE_RXN0, V30 PCIE_RXN1, V31 PCIE_RXP1, V33 SATA_TXP1, V35 SATA_RXN1, V36 SATA_RXP0, V37 SATA_RXN0, W35 SATA_RXP1, Y27 PCIE_TXP1, Y29 PCIE_RXP0
part L pins: N27 VDD_USB_0P9 (power), N36 VDD_USB0_VBUS, N37 USB0_R1, P35 USB0_DRVVBUS, P36 USB0_DN, P37 USB0_DP, R25 VDD_USB0_1P8 (power), R29 VDD_USB0_3P3 (power), R30 VDD_USB1_3P3 (power), R35 USB1_DRVVBUS, R36 USB1_DN, R37 USB1_DP, T25 VDD_USB1_1P8 (power), T27 RSV6, T28 RSV5, T29 VDD_USB0_3P3 (power), T30 VDD_USB1_3P3 (power), T36 VDD_USB1_VBUS, T37 USB1_R1
part M pins: F37 PORn, G2 GP0[5]/MCA[2]_AMUTEIN/GPMC_A[24], G5 GP0[6]/MCA[1]_AMUTEIN/GPMC_A[23], G33 RESETn, G36 NMIn, G37 RSTOUTn, H32 GP0[4], H35 GP0[7]/MCA[0]_AMUTEIN, H36 WD_OUT, J31 GP0[3]/TCLKIN, J32 GP1[30]/SATA_ACT0_LED, J33 GP1[31]/SATA_ACT1_LED, J34 TDI, J35 EMU0, J36 RTCK, J37 TCLK, K30 GP0[2], K31 GP0[0], K36 TRSTn, L29 GP0[1], L36 EMU1, L37 EMU2, M36 EMU3, M37 EMU4, N30 TDO, N31 TMS
part N pins: A21 VREFSSTL_DDR[1], A22 DDR[1]_ODT[1], A23 DDR[1]_CLK[1], A24 DDR[1]_A[7], A25 DDR[1]_A[0], A26 DDR[1]_CLK[0]n, A29 DDR[1]_DQS[3]n, A30 DDR[1]_DQS[2]n, A31 DDR[1]_D[17], A32 DDR[1]_VTP, A33 DDR[1]_D[12], A34 DDR[1]_DQS[1]n, A35 DDR[1]_D[14], B21 DDR[1]_CS[0]n, B22 DDR[1]_A[13], B23 DDR[1]_CLK[1]n, B24 DDR[1]_BA[1], B25 DDR[1]_A[11], B26 DDR[1]_CLK[0], B27 DDR[1]_D[25], B28 DDR[1]_D[26], B29 DDR[1]_DQS[3], B30 DDR[1]_DQS[2], B31 DDR[1]_D[19], B32 DDR[1]_D[13], B33 DDR[1]_DQM[1], B34 DDR[1]_DQS[1], B35 DDR[1]_D[15], B36 DDR[1]_D[5], B37 DDR[1]_D[0], C20 DDR[1]_CKE, C24 DDR[1]_A[10], C25 DDR[1]_CASn, C27 DDR[1]_D[29], C29 DDR[1]_D[31], C30 DDR[1]_D[16], C32 DDR[1]_D[10], C33 DDR[1]_D[8], C36 DDR[1]_DQM[0], C37 DDR[1]_D[7], D20 DDR[1]_RSTn, D21 DDR[1]_A[14], D23 DDR[1]_A[2], D25 DDR[1]_RASn, D29 DDR[1]_DQM[3], D30 DDR[1]_D[21], D31 DDR[1]_D[9], D32 DDR[1]_D[11], D36 DDR[1]_D[4], E20 DDR[1]_ODT[0], E25 DDR[1]_WEn, E29 DDR[1]_D[24], E30 DDR[1]_D[27], E31 DDR[1]_D[23], E35 DDR[1]_DQS[0]n, E36 DDR[1]_D[2], F20 DDR[1]_CS[1]n, F25 DDR[1]_BA[0], F29 DDR[1]_D[22], F30 DDR[1]_D[20], F34 DDR[1]_DQS[0], F35 DDR[1]_D[6], F36 DDR[1]_D[1], G25 DDR[1]_A[3], G28 DDR[1]_D[28], G29 DDR[1]_DQM[2], G34 DDR[1]_D[3], H25 DDR[1]_A[4], H28 DDR[1]_D[18], J25 DDR[1]_A[5], J27 DDR[1]_D[30], K25 DDR[1]_A[9], L25 DDR[1]_A[6], N21 DDR[1]_A[1], N22 DDR[1]_A[12], N23 DDR[1]_BA[2], N24 DDR[1]_A[8]
part O pins: A19 DEV_MXI/DEV_CLKIN, B19 DEVOSC_VSS, C19 DEV_MXO, E19 DEVOSC_DVDD18, H37 CLKIN32, N19 RSV3, N20 RSV4, P32 RSV17, P33 RSV18, P34 X2USB, R34 RSV16
part P pins: AB14 CVDD (power), AB15 CVDD (power), AB16 CVDD (power), AB17 CVDD (power), AB18 CVDD (power), AB19 CVDD (power), AB20 CVDD (power), AB21 CVDD (power), AB22 CVDD (power), AB23 CVDD (power), AB24 CVDD (power), AC16 CVDD (power), AC17 CVDD (power), AC18 CVDD (power), AC19 CVDD (power), AC20 CVDD (power), AC21 CVDD (power), AC22 CVDD (power), AD16 CVDD (power), AD17 CVDD (power), AD18 CVDD (power), AD19 CVDD (power), AD20 CVDD (power), AD21 CVDD (power), AD22 CVDD (power), P16 CVDD (power), P17 CVDD (power), P18 CVDD (power), P19 CVDD (power), P20 CVDD (power), P21 CVDD (power), P22 CVDD (power), R16 CVDD (power), R17 CVDD (power), R18 CVDD (power), R19 CVDD (power), R20 CVDD (power), R21 CVDD (power), R22 CVDD (power), T14 CVDD (power), T15 CVDD (power), T16 CVDD (power), T17 CVDD (power), T18 CVDD (power), T19 CVDD (power), T20 CVDD (power), T21 CVDD (power), T22 CVDD (power), T23 CVDD (power), T24 CVDD (power)
part Q pins: N28 RSV10, N29 RSV11
part R pins: AC14 CVDDC (power), AC15 CVDDC (power), AC23 CVDDC (power), AC24 CVDDC (power), AD14 CVDDC (power), AD15 CVDDC (power), AD23 CVDDC (power), AD24 CVDDC (power), AE13 CVDDC (power), AE25 CVDDC (power), N13 CVDDC (power), N25 CVDDC (power), P14 CVDDC (power), P15 CVDDC (power), P23 CVDDC (power), P24 CVDDC (power), R14 CVDDC (power), R15 CVDDC (power), R23 CVDDC (power), R24 CVDDC (power)
part S pins: A2 DVDD_DDR[0] (power), A11 DVDD_DDR[0] (power), E1 DVDD_DDR[0] (power), E11 DVDD_DDR[0] (power), J14 DVDD_DDR[0] (power), J15 DVDD_DDR[0] (power), J16 DVDD_DDR[0] (power), J17 DVDD_DDR[0] (power), J18 DVDD_DDR[0] (power), K14 DVDD_DDR[0] (power), K15 DVDD_DDR[0] (power), K16 DVDD_DDR[0] (power), K17 DVDD_DDR[0] (power), K18 DVDD_DDR[0] (power), K19 DVDD_DDR[0] (power), L14 DVDD_DDR[0] (power), L15 DVDD_DDR[0] (power), L16 DVDD_DDR[0] (power), L17 DVDD_DDR[0] (power), L18 DVDD_DDR[0] (power), L19 DVDD_DDR[0] (power)
part T pins: A27 DVDD_DDR[1] (power), A36 DVDD_DDR[1] (power), D37 DVDD_DDR[1] (power), E27 DVDD_DDR[1] (power), J19 DVDD_DDR[1] (power), J20 DVDD_DDR[1] (power), J21 DVDD_DDR[1] (power), J22 DVDD_DDR[1] (power), J23 DVDD_DDR[1] (power), J24 DVDD_DDR[1] (power), K20 DVDD_DDR[1] (power), K21 DVDD_DDR[1] (power), K22 DVDD_DDR[1] (power), K23 DVDD_DDR[1] (power), K24 DVDD_DDR[1] (power), L20 DVDD_DDR[1] (power), L21 DVDD_DDR[1] (power), L22 DVDD_DDR[1] (power), L23 DVDD_DDR[1] (power), L24 DVDD_DDR[1] (power)
part U pins: AA1 DVDD_3P3 (power), AA9 DVDD_3P3 (power), AA10 DVDD_3P3 (power), AA11 DVDD_3P3 (power), AB9 DVDD_3P3 (power), AB10 DVDD_3P3 (power), AB11 DVDD_3P3 (power), AC9 DVDD_3P3 (power), AC10 DVDD_3P3 (power), AC11 DVDD_3P3 (power), AC27 DVDD_3P3 (power), AC28 DVDD_3P3 (power), AC29 DVDD_3P3 (power), AD9 DVDD_3P3 (power), AD10 DVDD_3P3 (power), AD11 DVDD_3P3 (power), AD27 DVDD_3P3 (power), AD28 DVDD_3P3 (power), AD29 DVDD_3P3 (power), AE27 DVDD_3P3 (power), AE28 DVDD_3P3 (power), AE29 DVDD_3P3 (power), AG14 DVDD_3P3 (power), AG15 DVDD_3P3 (power), AG16 DVDD_3P3 (power), AG17 DVDD_3P3 (power), AG33 DVDD_3P3 (power), AH14 DVDD_3P3 (power), AH15 DVDD_3P3 (power), AH16 DVDD_3P3 (power), AH17 DVDD_3P3 (power), AJ14 DVDD_3P3 (power), AJ15 DVDD_3P3 (power), AJ16 DVDD_3P3 (power), AJ17 DVDD_3P3 (power), AN1 DVDD_3P3 (power), AN11 DVDD_3P3 (power), AN27 DVDD_3P3 (power), AN37 DVDD_3P3 (power), AU2 DVDD_3P3 (power), AU11 DVDD_3P3 (power), AU29 DVDD_3P3 (power), L1 DVDD_3P3 (power), L5 DVDD_3P3 (power), L30 DVDD_3P3 (power), L35 DVDD_3P3 (power), P8 DVDD_3P3 (power), P9 DVDD_3P3 (power), P10 DVDD_3P3 (power), P11 DVDD_3P3 (power), P27 DVDD_3P3 (power), P28 DVDD_3P3 (power), P29 DVDD_3P3 (power), P30 DVDD_3P3 (power), R9 DVDD_3P3 (power), R10 DVDD_3P3 (power), R11 DVDD_3P3 (power), R27 DVDD_3P3 (power), R28 DVDD_3P3 (power), T9 DVDD_3P3 (power), T10 DVDD_3P3 (power), T11 DVDD_3P3 (power), U9 DVDD_3P3 (power), U10 DVDD_3P3 (power), U11 DVDD_3P3 (power), Y9 DVDD_3P3 (power)
part V pins: AB36 RSV1, AE23 RSV7, AU37 RSV9, D14 RSV20, D24 RSV8, P25 RSV2

## AAT4282BIPS-3-T1
designator U?
Power switch
pins: 1 INA (power), 2 ENA (power), 3 ENB (power), 4 INB (power), 5 OUTB (power), 6 GND (power), 7 FAST (power), 8 OUTA (power)

## ADP2140
designator U?
pins: 1 PGND, 2 SW, 3 AGND, 4 FB, 5 VIN2, 6 VOUT2, 7 EN2, 8 EN1, 9 PG, 10 VIN1, P GND

## ADS1230
designator U?
20 Bit Delta Sigma ADC for Bridge Sensors
pins: 1 DVDD (power), 2 DGND (power), 3 CLKIN (in), 4 GAIN (in), 5 CAP, 6 CAP, 7 AINP (in), 8 AINN (in), 9 REFN (in), 10 REFP (in), 11 AGND (power), 12 AVDD (power), 13 SPEED (in), 14 ~{PDWN} (in), 15 SCLK (in), 16 ~{DRDY}/DOUT (out)

## ADUM4160
designator U?
pins: 1 VBUS1, 2 GND1, 3 VDD1, 4 PDEN, 5 SPU, 6 UD-, 7 UD+, 8 GND1, 9 GND2, 10 DD+, 11 DD-, 12 PIN, 13 SPD, 14 VDD2, 15 GND2, 16 VBUS2

## AP7332
designator U?
DUAL 300mA LOW QUIESCENT CURRENT FAST   TRANSIENT LOW DROPOUT LINEAR REGULATOR
pins: 1 VIN, 2 EN1, 3 EN2, 4 GND, 5 OUT2, 6 OUT1

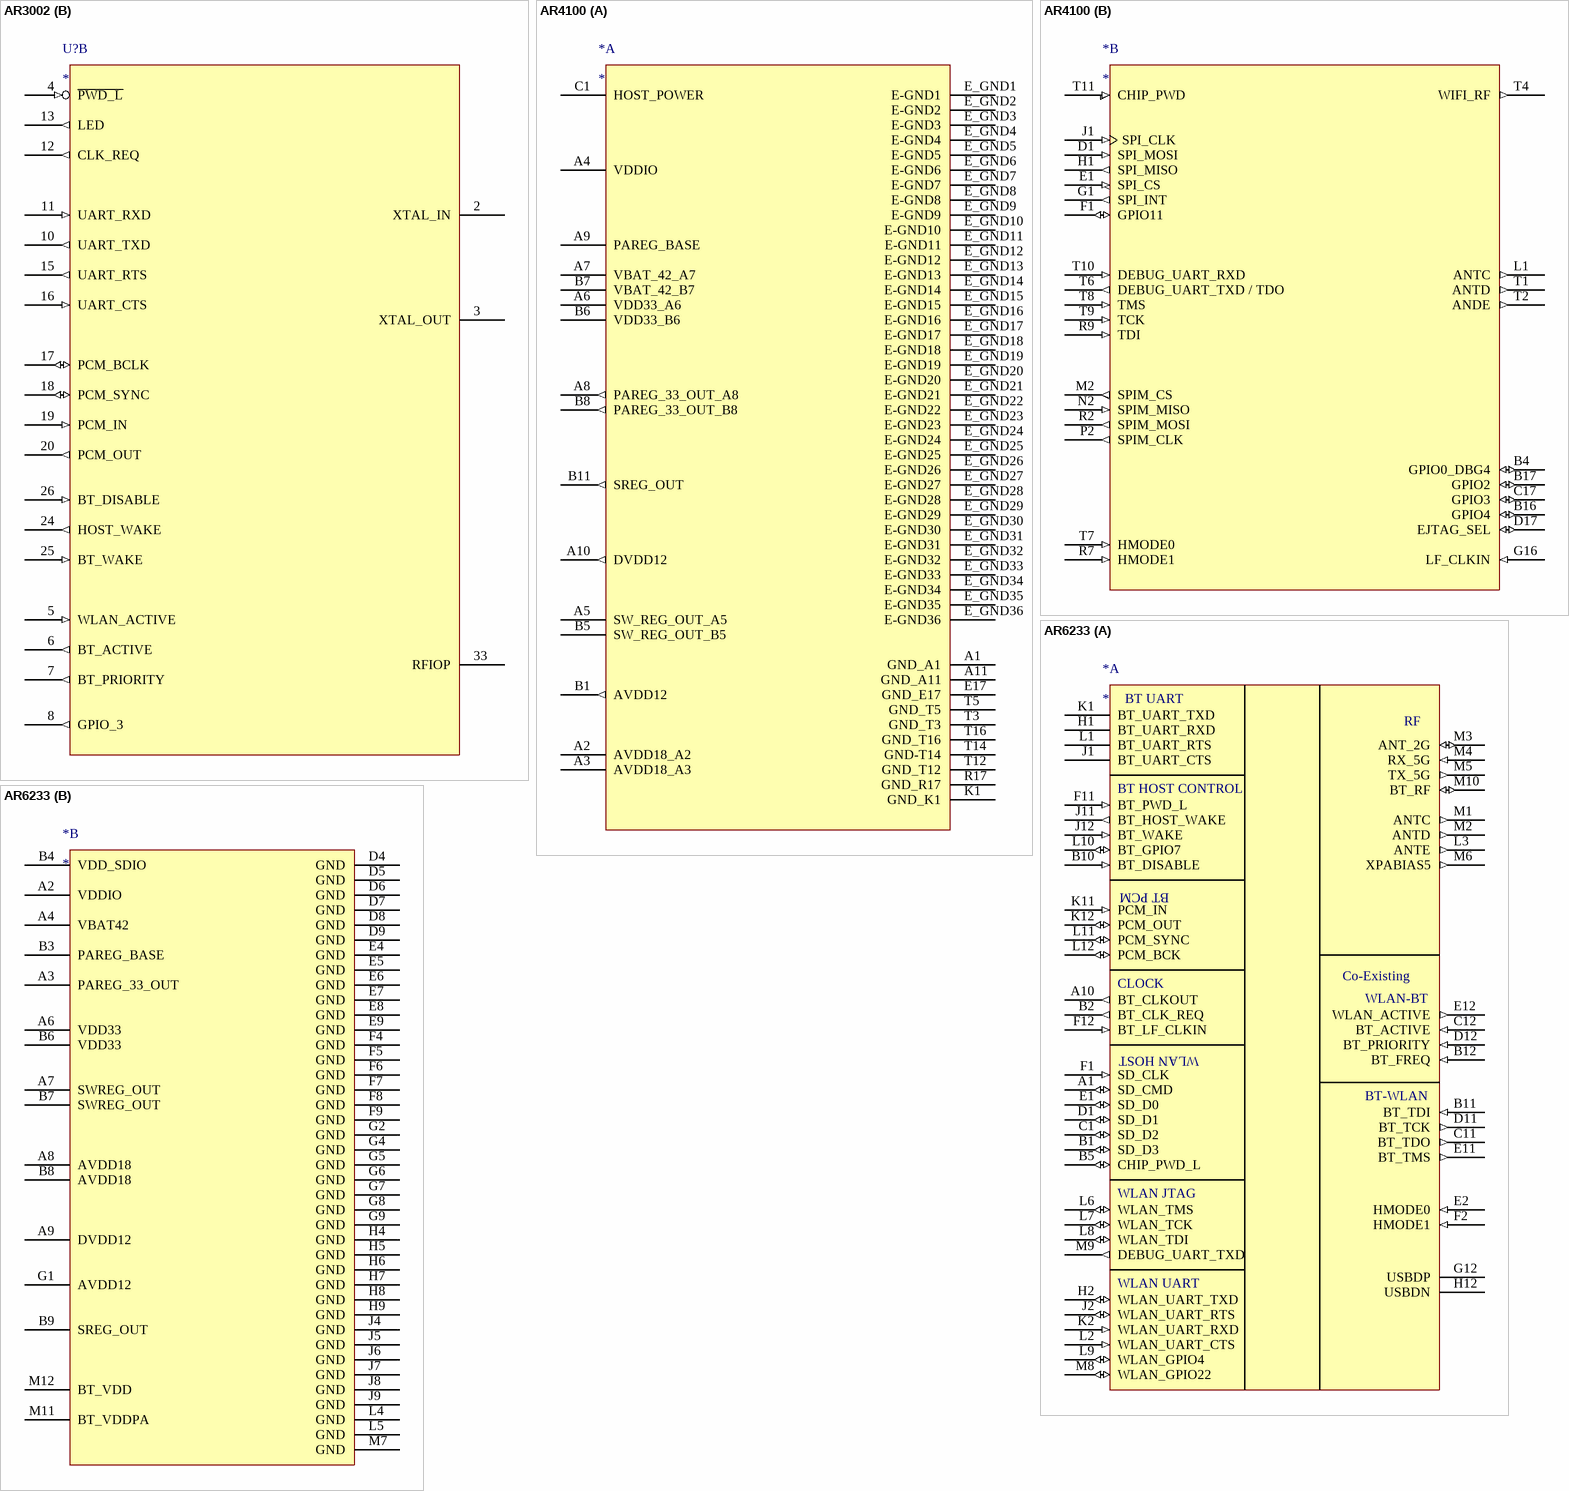
[diagram p8: symbols AR3002 to AR6233]

## AR3002
designator U?
Bluetooth Radio Chip
part A pins: 1 VDDIO_XTAL, 9 VDD12, 14 VDDIO, 21 RES, 22 VDD12, 23 VDDIO, 29 VDD12_ABB, 30 RES, 34 PABIASP, 35 VDDIO_RF, 36 VDD12_RF, 37 VDD12_SYN, 38 VDDIO_SYN, 39 LDO_IN, 40 LDO_OUT, 41 GND
part B pins: 2 XTAL_IN, 3 XTAL_OUT, 4 ~{PWD_L} (in), 5 WLAN_ACTIVE (in), 6 BT_ACTIVE (out), 7 BT_PRIORITY (out), 8 GPIO_3 (out), 10 UART_TXD (out), 11 UART_RXD (in), 12 CLK_REQ (out), 13 LED (out), 15 UART_RTS (out), 16 UART_CTS (in), 17 PCM_BCLK (io), 18 PCM_SYNC (io), 19 PCM_IN (in), 20 PCM_OUT (out), 24 HOST_WAKE (out), 25 BT_WAKE (in), 26 BT_DISABLE (in), 33 RFIOP

## AR4100
designator *
part A pins: A1 GND_A1 (power), A2 AVDD18_A2 (power), A3 AVDD18_A3 (power), A4 VDDIO (power), A5 SW_REG_OUT_A5 (power), A6 VDD33_A6 (power), A7 VBAT_42_A7 (power), A8 PAREG_33_OUT_A8 (out), A9 PAREG_BASE (power), A10 DVDD12 (out), A11 GND_A11 (power), B1 AVDD12 (out), B5 SW_REG_OUT_B5 (power), B6 VDD33_B6 (power), B7 VBAT_42_B7 (power), B8 PAREG_33_OUT_B8 (out), B11 SREG_OUT (out), C1 HOST_POWER (power), E17 GND_E17 (power), E_GND1 E-GND1 (power), E_GND2 E-GND2 (power), E_GND3 E-GND3 (power), E_GND4 E-GND4 (power), E_GND5 E-GND5 (power), E_GND6 E-GND6 (power), E_GND7 E-GND7 (power), E_GND8 E-GND8 (power), E_GND9 E-GND9 (power), E_GND10 E-GND10 (power), E_GND11 E-GND11 (power), E_GND12 E-GND12 (power), E_GND13 E-GND13 (power), E_GND14 E-GND14 (power), E_GND15 E-GND15 (power), E_GND16 E-GND16 (power), E_GND17 E-GND17 (power), E_GND18 E-GND18 (power), E_GND19 E-GND19 (power), E_GND20 E-GND20 (power), E_GND21 E-GND21 (power), E_GND22 E-GND22 (power), E_GND23 E-GND23 (power), E_GND24 E-GND24 (power), E_GND25 E-GND25 (power), E_GND26 E-GND26 (power), E_GND27 E-GND27 (power), E_GND28 E-GND28 (power), E_GND29 E-GND29 (power), E_GND30 E-GND30 (power), E_GND31 E-GND31 (power), E_GND32 E-GND32 (power), E_GND33 E-GND33 (power), E_GND34 E-GND34 (power), E_GND35 E-GND35 (power), E_GND36 E-GND36 (power), K1 GND_K1 (power), R17 GND_R17 (power), T3 GND_T3 (power), T5 GND_T5 (power), T12 GND_T12 (power), T14 GND-T14 (power), T16 GND_T16 (power)
part B pins: B4 GPIO0_DBG4 (io), B16 GPIO4 (io), B17 GPIO2 (io), C17 GPIO3 (io), D1 SPI_MOSI (in), D17 EJTAG_SEL (io), E1 SPI_CS (in), F1 GPIO11 (io), G1 SPI_INT (out), G16 LF_CLKIN (in), H1 SPI_MISO (out), J1 SPI_CLK (in), L1 ANTC (out), M2 SPIM_CS (out), N2 SPIM_MISO (in), P2 SPIM_CLK (out), R2 SPIM_MOSI (out), R7 HMODE1 (in), R9 TDI (in), T1 ANTD (out), T2 ANDE (out), T4 WIFI_RF (out), T6 DEBUG_UART_TXD / TDO (out), T7 HMODE0 (in), T8 TMS (in), T9 TCK (in), T10 DEBUG_UART_RXD (in), T11 CHIP_PWD (in)

## AR6233
designator *
footprint LGA116 (AR6233 - LGA116)
part A pins: A1 SD_CMD (io), A10 BT_CLKOUT (out), B1 SD_D3 (io), B2 BT_CLK_REQ (out), B5 CHIP_PWD_L (io), B10 BT_DISABLE (in), B11 BT_TDI (in), B12 BT_FREQ (in), C1 SD_D2 (io), C11 BT_TDO (out), C12 BT_ACTIVE (in), D1 SD_D1 (io), D11 BT_TCK (out), D12 BT_PRIORITY (in), E1 SD_D0 (io), E2 HMODE0 (in), E11 BT_TMS (out), E12 WLAN_ACTIVE (out), F1 SD_CLK (in), F2 HMODE1 (in), F11 BT_PWD_L (in), F12 BT_LF_CLKIN (in), G12 USBDP, H1 BT_UART_RXD, H2 WLAN_UART_TXD (io), H12 USBDN, J1 BT_UART_CTS, J2 WLAN_UART_RTS (io), J11 BT_HOST_WAKE (out), J12 BT_WAKE (in), K1 BT_UART_TXD, K2 WLAN_UART_RXD (in), K11 PCM_IN (in), K12 PCM_OUT (io), L1 BT_UART_RTS, L2 WLAN_UART_CTS (in), L3 ANTE (out), L6 WLAN_TMS (io), L7 WLAN_TCK (io), L8 WLAN_TDI (io), L9 WLAN_GPIO4 (io), L10 BT_GPIO7 (io), L11 PCM_SYNC (io), L12 PCM_BCK (io), M1 ANTC (out), M2 ANTD (out), M3 ANT_2G (io), M4 RX_5G (in), M5 TX_5G (out), M6 XPABIAS5 (out), M8 WLAN_GPIO22 (io), M9 DEBUG_UART_TXD (out), M10 BT_RF (io)
part B pins: A2 VDDIO (power), A3 PAREG_33_OUT (power), A4 VBAT42 (power), A6 VDD33 (power), A7 SWREG_OUT, A8 AVDD18, A9 DVDD12, B3 PAREG_BASE (power), B4 VDD_SDIO (power), B6 VDD33 (power), B7 SWREG_OUT, B8 AVDD18, B9 SREG_OUT, D4 GND, D5 GND, D6 GND, D7 GND, D8 GND, D9 GND, E4 GND, E5 GND, E6 GND, E7 GND, E8 GND, E9 GND, F4 GND, F5 GND, F6 GND, F7 GND, F8 GND, F9 GND, G1 AVDD12, G2 GND, G4 GND, G5 GND, G6 GND, G7 GND, G8 GND, G9 GND, H4 GND, H5 GND, H6 GND, H7 GND, H8 GND, H9 GND, J4 GND, J5 GND, J6 GND, J7 GND, J8 GND, J9 GND, L4 GND, L5 GND, M7 GND, M11 BT_VDDPA, M12 BT_VDD
part A text: BT UART; RF; BT HOST CONTROL; BT PCM; Co-Existing; CLOCK; WLAN-BT; WLAN HOST; BT-WLAN; WLAN JTAG; WLAN UART

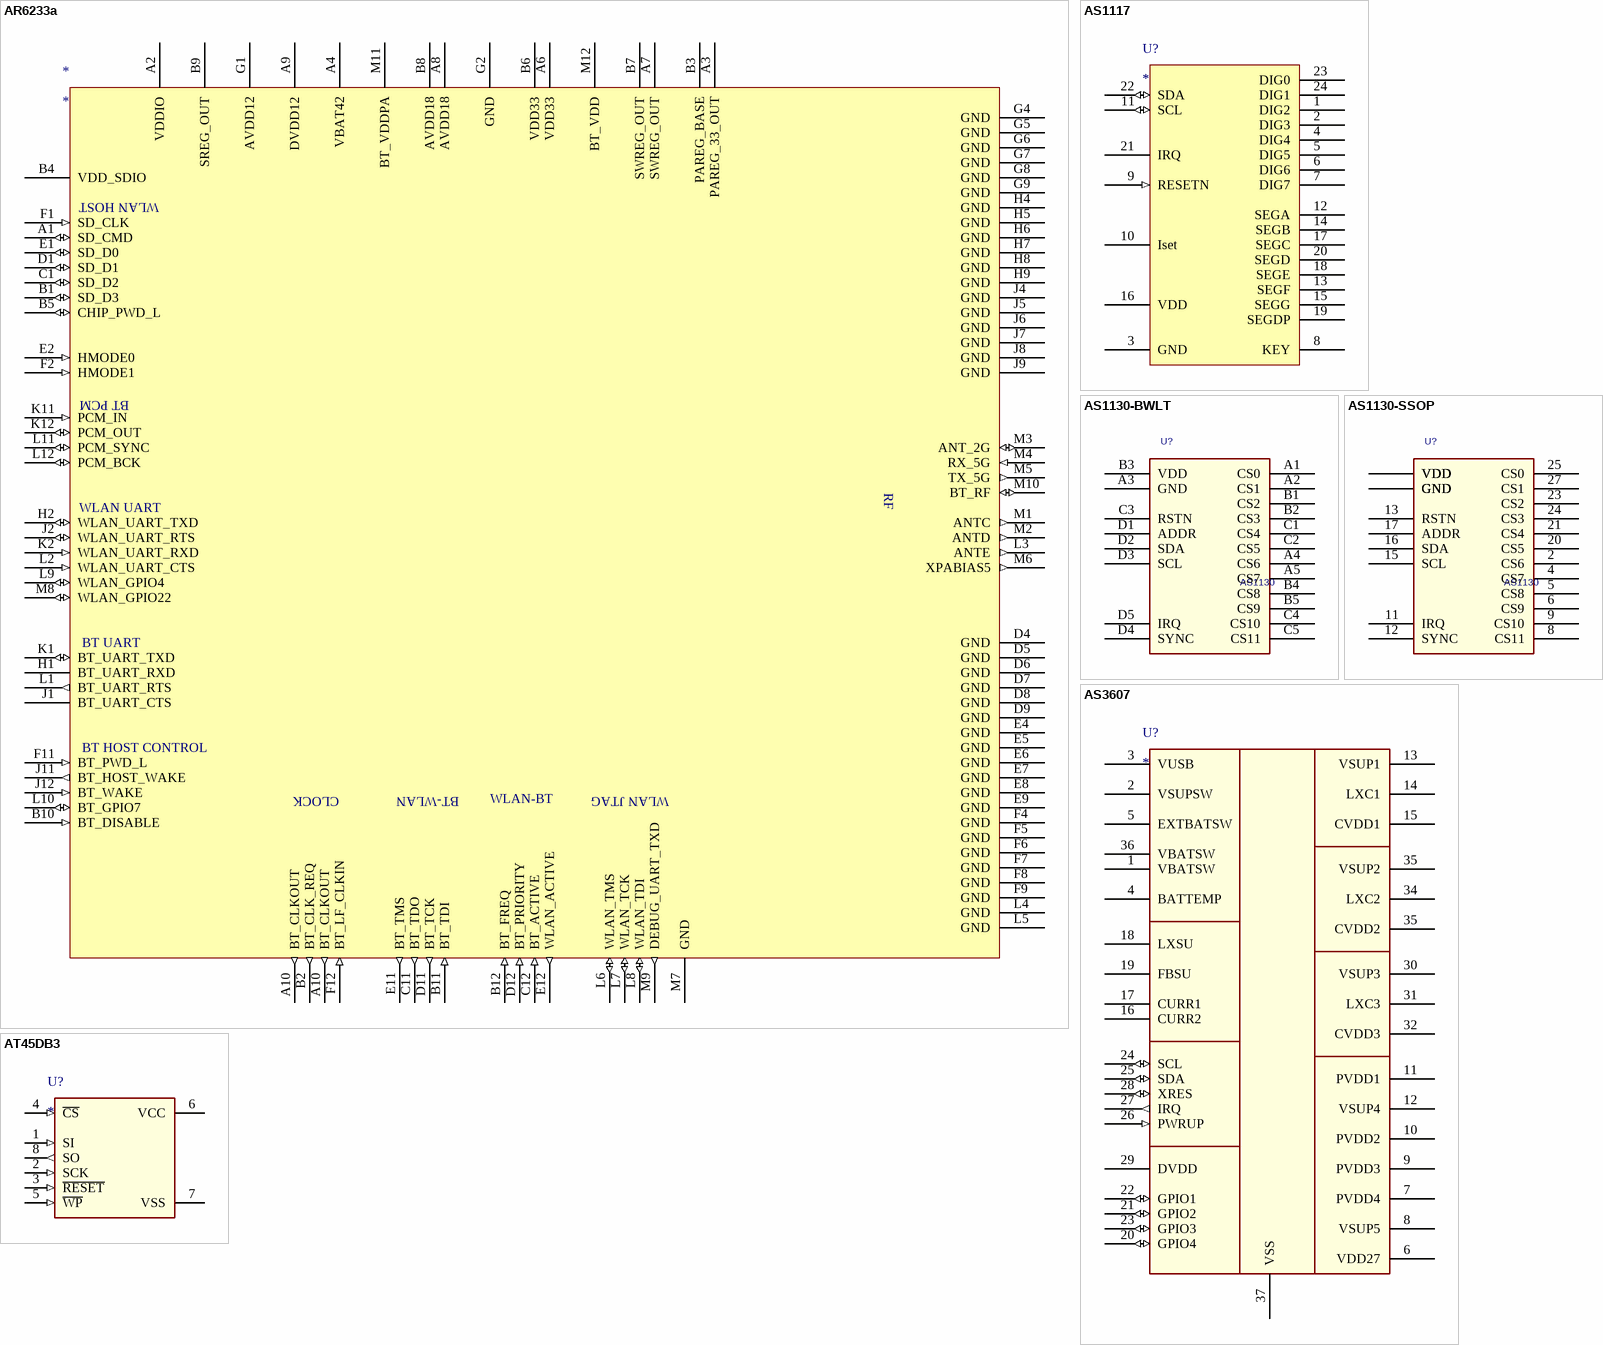
[diagram p9: symbols AR6233a to AT45DB3]

## AR6233a
designator *
pins: A1 SD_CMD (io), A2 VDDIO (power), A3 PAREG_33_OUT (power), A4 VBAT42 (power), A6 VDD33 (power), A7 SWREG_OUT, A8 AVDD18 (power), A9 DVDD12 (power), A10 BT_CLKOUT (out), A10 BT_CLKOUT (out), B1 SD_D3 (io), B2 BT_CLK_REQ (out), B3 PAREG_BASE, B4 VDD_SDIO (power), B5 CHIP_PWD_L (io), B6 VDD33 (power), B7 SWREG_OUT, B8 AVDD18 (power), B9 SREG_OUT, B10 BT_DISABLE (in), B11 BT_TDI (in), B12 BT_FREQ (in), C11 BT_TDO (out), C12 BT_ACTIVE (in), D1 SD_D1 (io), D4 GND (power), D5 GND (power), D6 GND (power), D7 GND (power), D8 GND (power), D9 GND (power), D11 BT_TCK (out), D12 BT_PRIORITY (in), E1 SD_D0 (io), E2 HMODE0 (in), E4 GND (power), E5 GND (power), E6 GND (power), E7 GND (power), E8 GND (power), E9 GND (power), E11 BT_TMS (out), E12 WLAN_ACTIVE (out), F1 SD_CLK (in), F2 HMODE1 (in), F4 GND (power), F5 GND (power), F6 GND (power), F7 GND (power), F8 GND (power), F9 GND (power), F11 BT_PWD_L (in), F12 BT_LF_CLKIN (in), G1 AVDD12 (power), G2 GND (power), G4 GND (power), G5 GND (power), G6 GND (power), G7 GND (power), G8 GND (power), G9 GND (power), H1 BT_UART_RXD, H2 WLAN_UART_TXD (io), H4 GND (power), H5 GND (power), H6 GND (power), H7 GND (power), H8 GND (power), H9 GND (power), J1 BT_UART_CTS, J2 WLAN_UART_RTS (io), J4 GND (power), J5 GND (power), J6 GND (power), J7 GND (power), J8 GND (power), J9 GND (power), J11 BT_HOST_WAKE (out), J12 BT_WAKE (in), K1 BT_UART_TXD (io), K2 WLAN_UART_RXD (in), K11 PCM_IN (in), K12 PCM_OUT (io), L1 BT_UART_RTS (out), L2 WLAN_UART_CTS (in), L3 ANTE (out), L4 GND (power), L5 GND (power), L6 WLAN_TMS (io), L7 WLAN_TCK (io), L8 WLAN_TDI (io), L9 WLAN_GPIO4 (io), L10 BT_GPIO7 (io), L11 PCM_SYNC (io), L12 PCM_BCK (io), M1 ANTC (out), M2 ANTD (out), M3 ANT_2G (io), M4 RX_5G (in), M5 TX_5G (out), M6 XPABIAS5 (out), M7 GND (power), M8 WLAN_GPIO22 (io), M9 DEBUG_UART_TXD (out), M10 BT_RF (io), M11 BT_VDDPA (power), M12 BT_VDD (power), С1 SD_D2 (io)
text: WLAN HOST; BT PCM; RF; WLAN UART; BT UART; BT HOST CONTROL; CLOCK; BT-WLAN; WLAN JTAG; WLAN-BT

## AS1117
designator U?
AS1117 LED/Key driver with I2C interface
pins: 1 DIG2, 2 DIG3, 3 GND, 4 DIG4, 5 DIG5, 6 DIG6, 7 DIG7, 8 KEY, 9 RESETN (in), 10 Iset, 11 SCL (io), 12 SEGA, 13 SEGF, 14 SEGB, 15 SEGG, 16 VDD (power), 17 SEGC, 18 SEGE, 19 SEGDP, 20 SEGD, 21 IRQ, 22 SDA (io), 23 DIG0, 24 DIG1

## AS1130-BWLT
designator U?, comment AS1130
132 LED Driver
footprint 20-pin WL-CSP (BGA, 20-Leads, Body 2.4x2.5mm,  Pitch 0.50mm)
pins: A1 CS0, A2 CS1, A3 GND, A4 CS6, A5 CS7, B1 CS2, B2 CS3, B3 VDD, B4 CS8, B5 CS9, C1 CS4, C2 CS5, C3 RSTN, C4 CS10, C5 CS11, D1 ADDR, D2 SDA, D3 SCL, D4 SYNC, D5 IRQ

## AS1130-SSOP
designator U?, comment AS1130
132 LED Driver
pins: 1 GND, 2 CS6, 3 VDD, 4 CS7, 5 CS8, 6 CS9, 7 GND, 8 CS11, 9 CS10, 10 VDD, 11 IRQ, 12 SYNC, 13 RSTN, 14 GND, 15 SCL, 16 SDA, 17 ADDR, 18 VDD, 19 VDD, 20 CS5, 21 CS4, 22 GND, 23 CS2, 24 CS3, 25 CS0, 26 VDD, 27 CS1, 28 GND

## AS3607
designator U?
System PMU
pins: 1 VBATSW, 2 VSUPSW, 3 VUSB, 4 BATTEMP, 5 EXTBATSW, 6 VDD27, 7 PVDD4, 8 VSUP5, 9 PVDD3, 10 PVDD2, 11 PVDD1, 12 VSUP4, 13 VSUP1, 14 LXC1, 15 CVDD1, 16 CURR2, 17 CURR1, 18 LXSU, 19 FBSU, 20 GPIO4 (io), 21 GPIO2 (io), 22 GPIO1 (io), 23 GPIO3 (io), 24 SCL (io), 25 SDA (io), 26 PWRUP (in), 27 IRQ (out), 28 XRES (io), 29 DVDD, 30 VSUP3, 31 LXC3, 32 CVDD3, 34 LXC2, 35 VSUP2, 35 CVDD2, 36 VBATSW, 37 VSS (power)

## AT45DB3
designator U?
Atmel SPI Flash
pins: 1 SI (in), 2 SCK (in), 3 ~{RESET} (in), 4 ~{CS} (in), 5 ~{WP} (in), 6 VCC (power), 7 VSS (power), 8 SO (out)

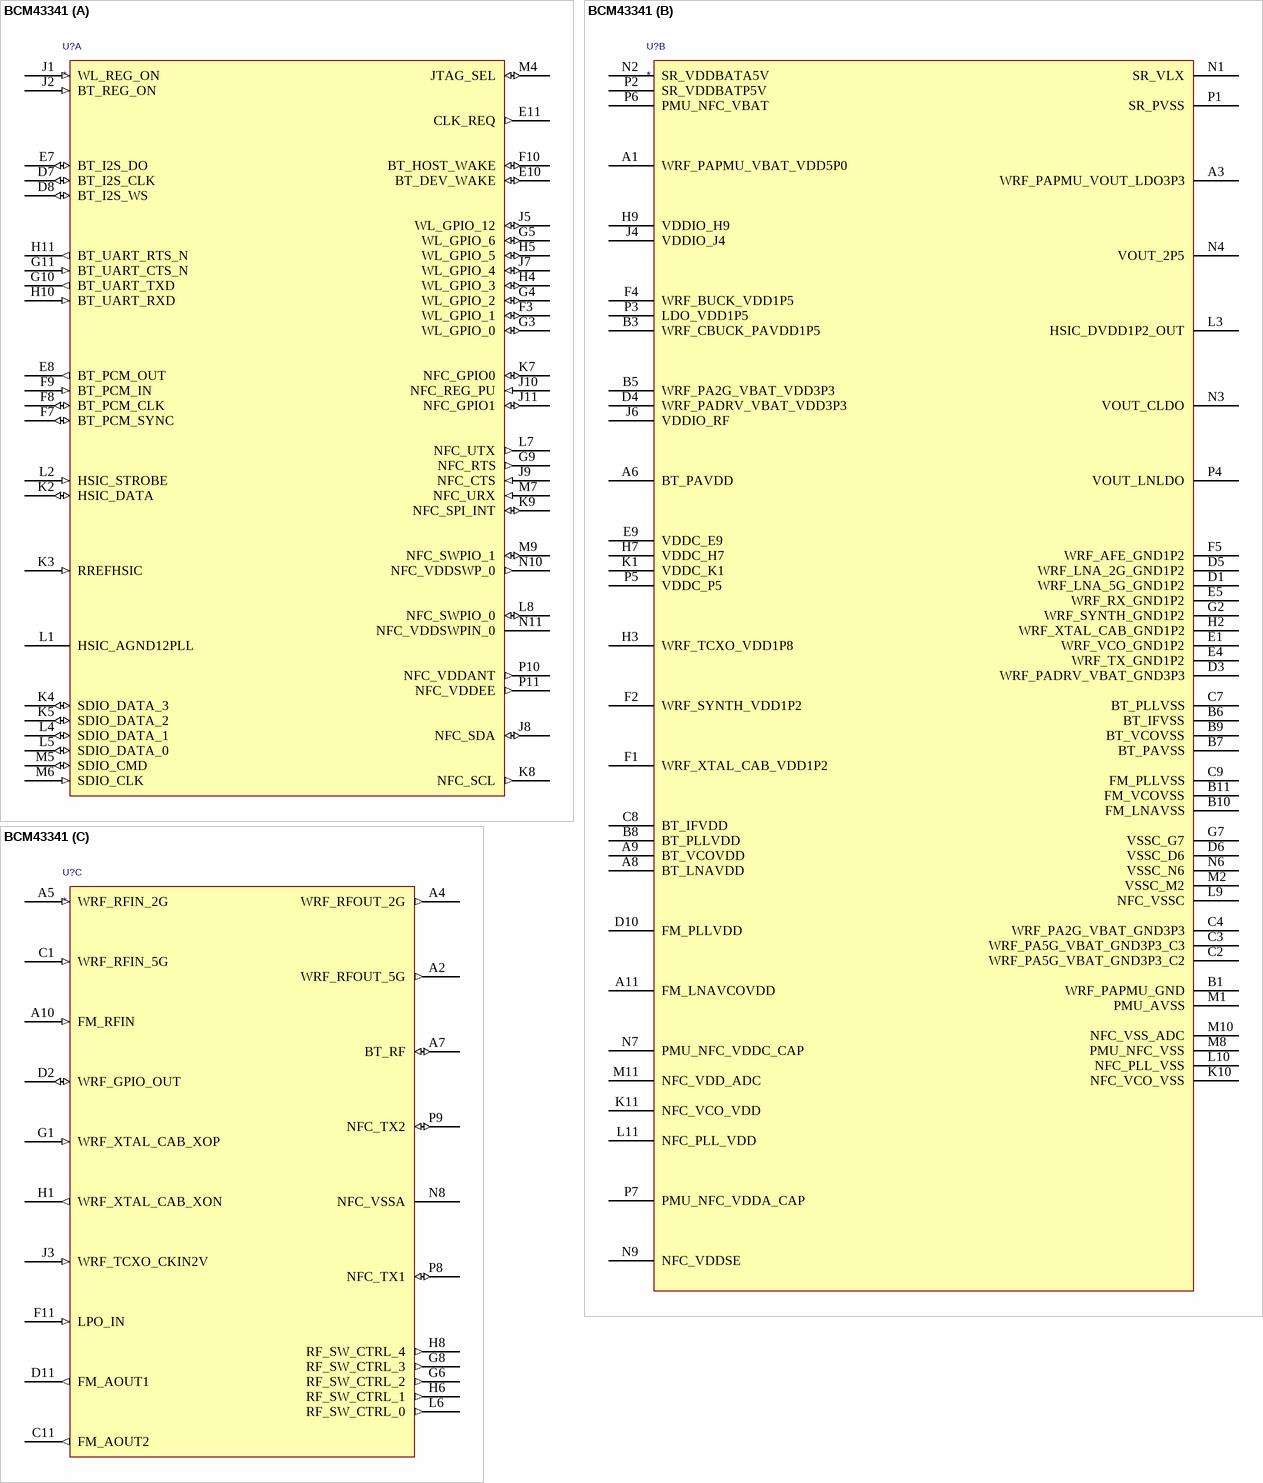
[diagram p10: symbol BCM43341]

## BCM43341
designator U?
RF
part A pins: D7 BT_I2S_CLK (io), D8 BT_I2S_WS (io), E7 BT_I2S_DO (io), E8 BT_PCM_OUT (out), E10 BT_DEV_WAKE (io), E11 CLK_REQ (out), F3 WL_GPIO_1 (io), F7 BT_PCM_SYNC (io), F8 BT_PCM_CLK (io), F9 BT_PCM_IN (in), F10 BT_HOST_WAKE (io), G3 WL_GPIO_0 (io), G4 WL_GPIO_2 (io), G5 WL_GPIO_6 (io), G9 NFC_RTS (out), G10 BT_UART_TXD (out), G11 BT_UART_CTS_N (in), H4 WL_GPIO_3 (io), H5 WL_GPIO_5 (io), H10 BT_UART_RXD (in), H11 BT_UART_RTS_N (out), J1 WL_REG_ON (in), J2 BT_REG_ON (in), J5 WL_GPIO_12 (io), J7 WL_GPIO_4 (io), J8 NFC_SDA (io), J9 NFC_CTS (in), J10 NFC_REG_PU (in), J11 NFC_GPIO1 (io), K2 HSIC_DATA (io), K3 RREFHSIC (in), K4 SDIO_DATA_3 (io), K5 SDIO_DATA_2 (io), K7 NFC_GPIO0 (io), K8 NFC_SCL (out), K9 NFC_SPI_INT (io), L1 HSIC_AGND12PLL (power), L2 HSIC_STROBE (in), L4 SDIO_DATA_1 (io), L5 SDIO_DATA_0 (io), L7 NFC_UTX (out), L8 NFC_SWPIO_0 (io), M4 JTAG_SEL (io), M5 SDIO_CMD (io), M6 SDIO_CLK (in), M7 NFC_URX (in), M9 NFC_SWPIO_1 (io), N10 NFC_VDDSWP_0 (out), N11 NFC_VDDSWPIN_0 (power), P10 NFC_VDDANT (out), P11 NFC_VDDEE (out)
part B pins: A1 WRF_PAPMU_VBAT_VDD5P0 (power), A3 WRF_PAPMU_VOUT_LDO3P3 (power), A6 BT_PAVDD (power), A8 BT_LNAVDD (power), A9 BT_VCOVDD (power), A11 FM_LNAVCOVDD (power), B1 WRF_PAPMU_GND (power), B3 WRF_CBUCK_PAVDD1P5 (power), B5 WRF_PA2G_VBAT_VDD3P3 (power), B6 BT_IFVSS (power), B7 BT_PAVSS (power), B8 BT_PLLVDD (power), B9 BT_VCOVSS (power), B10 FM_LNAVSS (power), B11 FM_VCOVSS (power), C2 WRF_PA5G_VBAT_GND3P3_C2 (power), C3 WRF_PA5G_VBAT_GND3P3_C3 (power), C4 WRF_PA2G_VBAT_GND3P3 (power), C7 BT_PLLVSS (power), C8 BT_IFVDD (power), C9 FM_PLLVSS (power), D1 WRF_LNA_5G_GND1P2 (power), D3 WRF_PADRV_VBAT_GND3P3 (power), D4 WRF_PADRV_VBAT_VDD3P3 (power), D5 WRF_LNA_2G_GND1P2 (power), D6 VSSC_D6 (power), D10 FM_PLLVDD (power), E1 WRF_VCO_GND1P2 (power), E4 WRF_TX_GND1P2 (power), E5 WRF_RX_GND1P2 (power), E9 VDDC_E9, F1 WRF_XTAL_CAB_VDD1P2 (power), F2 WRF_SYNTH_VDD1P2 (power), F4 WRF_BUCK_VDD1P5 (power), F5 WRF_AFE_GND1P2 (power), G2 WRF_SYNTH_GND1P2 (power), G7 VSSC_G7 (power), H2 WRF_XTAL_CAB_GND1P2 (power), H3 WRF_TCXO_VDD1P8 (power), H7 VDDC_H7 (power), H9 VDDIO_H9 (power), J4 VDDIO_J4 (power), J6 VDDIO_RF (power), K1 VDDC_K1 (power), K10 NFC_VCO_VSS (power), K11 NFC_VCO_VDD (power), L3 HSIC_DVDD1P2_OUT (power), L9 NFC_VSSC (power), L10 NFC_PLL_VSS (power), L11 NFC_PLL_VDD (power), M1 PMU_AVSS (power), M2 VSSC_M2 (power), M8 PMU_NFC_VSS (power), M10 NFC_VSS_ADC (power), M11 NFC_VDD_ADC (power), N1 SR_VLX (power), N2 SR_VDDBATA5V (power), N3 VOUT_CLDO (power), N4 VOUT_2P5 (power), N6 VSSC_N6 (power), N7 PMU_NFC_VDDC_CAP (power), N9 NFC_VDDSE (power), P1 SR_PVSS (power), P2 SR_VDDBATP5V (power), P3 LDO_VDD1P5 (power), P4 VOUT_LNLDO (power), P5 VDDC_P5 (power), P6 PMU_NFC_VBAT (power), P7 PMU_NFC_VDDA_CAP (power)
part C pins: A2 WRF_RFOUT_5G (out), A4 WRF_RFOUT_2G (out), A5 WRF_RFIN_2G (in), A7 BT_RF (io), A10 FM_RFIN (in), C1 WRF_RFIN_5G (in), C11 FM_AOUT2 (out), D2 WRF_GPIO_OUT (io), D11 FM_AOUT1 (out), F11 LPO_IN (in), G1 WRF_XTAL_CAB_XOP (in), G6 RF_SW_CTRL_2 (out), G8 RF_SW_CTRL_3 (out), H1 WRF_XTAL_CAB_XON (out), H6 RF_SW_CTRL_1 (out), H8 RF_SW_CTRL_4 (out), J3 WRF_TCXO_CKIN2V (in), L6 RF_SW_CTRL_0 (out), N8 NFC_VSSA (power), P8 NFC_TX1 (io), P9 NFC_TX2 (io)

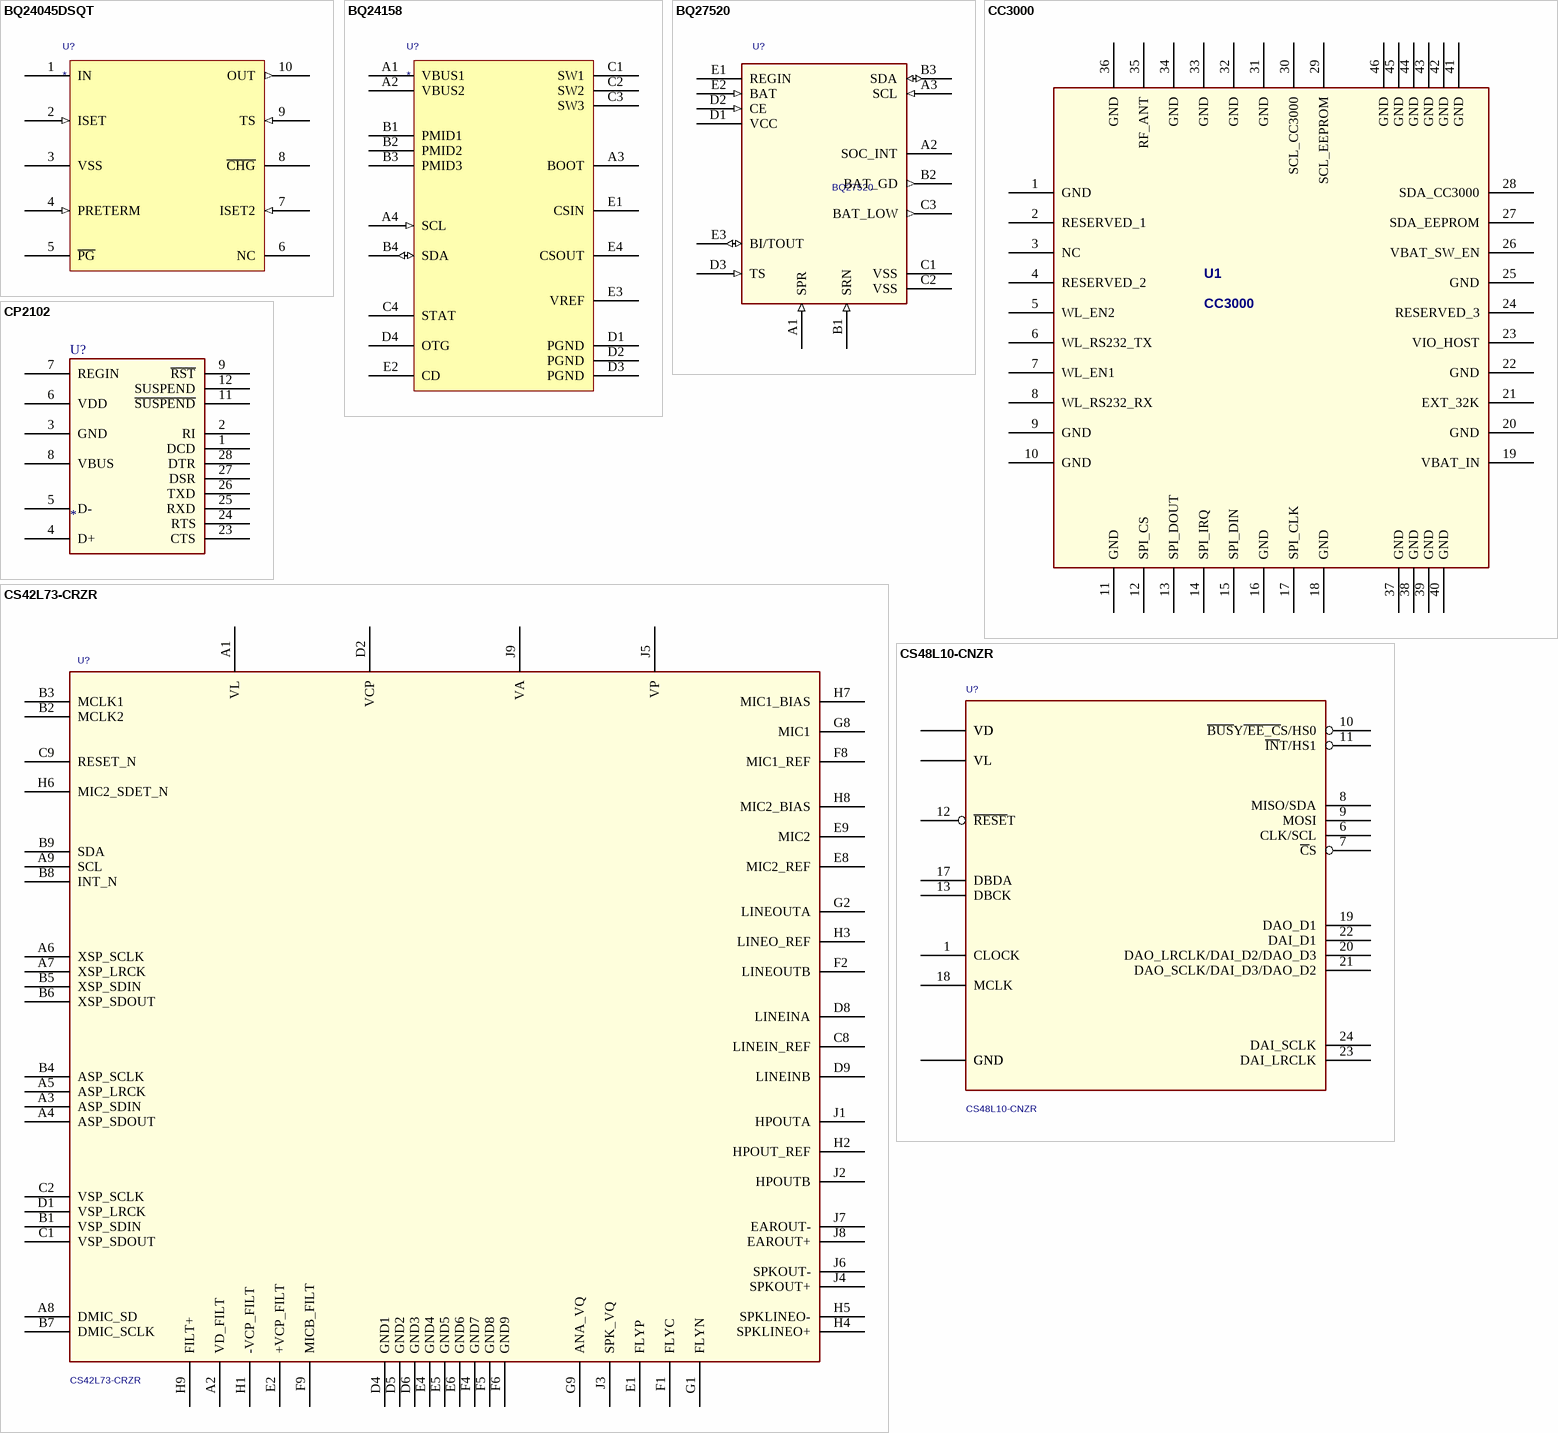
[diagram p11: symbols BQ24045DSQT to CS48L10-CNZR]

## BQ24045DSQT
designator U?
pins: 1 IN (power), 2 ISET (in), 3 VSS (power), 4 PRETERM (in), 5 ~{PG} (oc), 6 NC, 7 ISET2 (in), 8 ~{CHG} (oc), 9 TS (in), 10 OUT (out)

## BQ24158
designator U?
Switch-Mode One-Cell Li-Ion Charger
pins: A1 VBUS1, A2 VBUS2, A3 BOOT, A4 SCL (in), B1 PMID1, B2 PMID2, B3 PMID3, B4 SDA (io), C1 SW1, C2 SW2, C3 SW3, C4 STAT, D1 PGND, D2 PGND, D3 PGND, D4 OTG, E1 CSIN, E2 CD, E3 VREF, E4 CSOUT

## BQ27520
designator U?
LiIon charge control
pins: A1 SPR (in), A2 SOC_INT (oc), A3 SCL (in), B1 SRN (in), B2 BAT_GD (out), B3 SDA (io), C1 VSS (power), C2 VSS (power), C3 BAT_LOW (out), D1 VCC (power), D2 CE (in), D3 TS (in), E1 REGIN (power), E2 BAT (in), E3 BI/TOUT (io)

## CC3000
designator U1
pins: 1 GND (power), 2 RESERVED_1, 3 NC, 4 RESERVED_2, 5 WL_EN2, 6 WL_RS232_TX, 7 WL_EN1, 8 WL_RS232_RX, 9 GND (power), 10 GND (power), 11 GND (power), 12 SPI_CS, 13 SPI_DOUT, 14 SPI_IRQ, 15 SPI_DIN, 16 GND (power), 17 SPI_CLK, 18 GND (power), 19 VBAT_IN (power), 20 GND (power), 21 EXT_32K, 22 GND (power), 23 VIO_HOST, 24 RESERVED_3, 25 GND (power), 26 VBAT_SW_EN, 27 SDA_EEPROM, 28 SDA_CC3000, 29 SCL_EEPROM, 30 SCL_CC3000, 31 GND (power), 32 GND (power), 33 GND (power), 34 GND (power), 35 RF_ANT, 36 GND (power), 37 GND (power), 38 GND (power), 39 GND (power), 40 GND (power), 41 GND (power), 42 GND (power), 43 GND (power), 44 GND (power), 45 GND (power), 46 GND (power)

## CP2102
designator U?
USB-COM Converter
pins: 1 DCD, 2 RI, 3 GND, 4 D+, 5 D-, 6 VDD, 7 REGIN, 8 VBUS, 9 ~{RST}, 11 ~{SUSPEND}, 12 SUSPEND, 23 CTS, 24 RTS, 25 RXD, 26 TXD, 27 DSR, 28 DTR

## CS42L73-CRZR
designator U?
IC, ULTRALOW POWER MOBILE AUDIO AND TELEPHONY CODEC 5x5mm, 65-FBGA, RoHS
pins: A1 VL (power), A2 VD_FILT, A3 ASP_SDIN, A4 ASP_SDOUT, A5 ASP_LRCK, A6 XSP_SCLK, A7 XSP_LRCK, A8 DMIC_SD, A9 SCL, B1 VSP_SDIN, B2 MCLK2, B3 MCLK1, B4 ASP_SCLK, B5 XSP_SDIN, B6 XSP_SDOUT, B7 DMIC_SCLK, B8 INT_N, B9 SDA, C1 VSP_SDOUT, C2 VSP_SCLK, C8 LINEIN_REF, C9 RESET_N, D1 VSP_LRCK, D2 VCP (power), D4 GND1, D5 GND2, D6 GND3, D8 LINEINA, D9 LINEINB, E1 FLYP, E2 +VCP_FILT, E4 GND4, E5 GND5, E6 GND6, E8 MIC2_REF, E9 MIC2, F1 FLYC, F2 LINEOUTB, F4 GND7, F5 GND8, F6 GND9, F8 MIC1_REF, F9 MICB_FILT, G1 FLYN, G2 LINEOUTA, G8 MIC1, G9 ANA_VQ, H1 -VCP_FILT, H2 HPOUT_REF, H3 LINEO_REF, H4 SPKLINEO+, H5 SPKLINEO-, H6 MIC2_SDET_N, H7 MIC1_BIAS, H8 MIC2_BIAS, H9 FILT+, J1 HPOUTA, J2 HPOUTB, J3 SPK_VQ, J4 SPKOUT+, J5 VP (power), J6 SPKOUT-, J7 EAROUT-, J8 EAROUT+, J9 VA (power)

## CS48L10-CNZR
designator U?
IC, ULTRALOW POWER VOICE AND AUDIO DSP SUBSYSTEM 130 MHz 32-BIT CORE 2.25x2mm, 24QFN, RoHS
pins: 1 CLOCK, 2 VD, 3 GND, 4 VD, 5 VL, 6 CLK/SCL, 7 ~{C}S, 8 MISO/SDA, 9 MOSI, 10 ~{BUS}Y~{/EE_C}S/HS0, 11 ~{IN}T/HS1, 12 ~{RESE}T, 13 DBCK, 14 VL, 15 GND, 16 VD, 17 DBDA, 18 MCLK, 19 DAO_D1, 20 DAO_LRCLK/DAI_D2/DAO_D3, 21 DAO_SCLK/DAI_D3/DAO_D2, 22 DAI_D1, 23 DAI_LRCLK, 24 DAI_SCLK

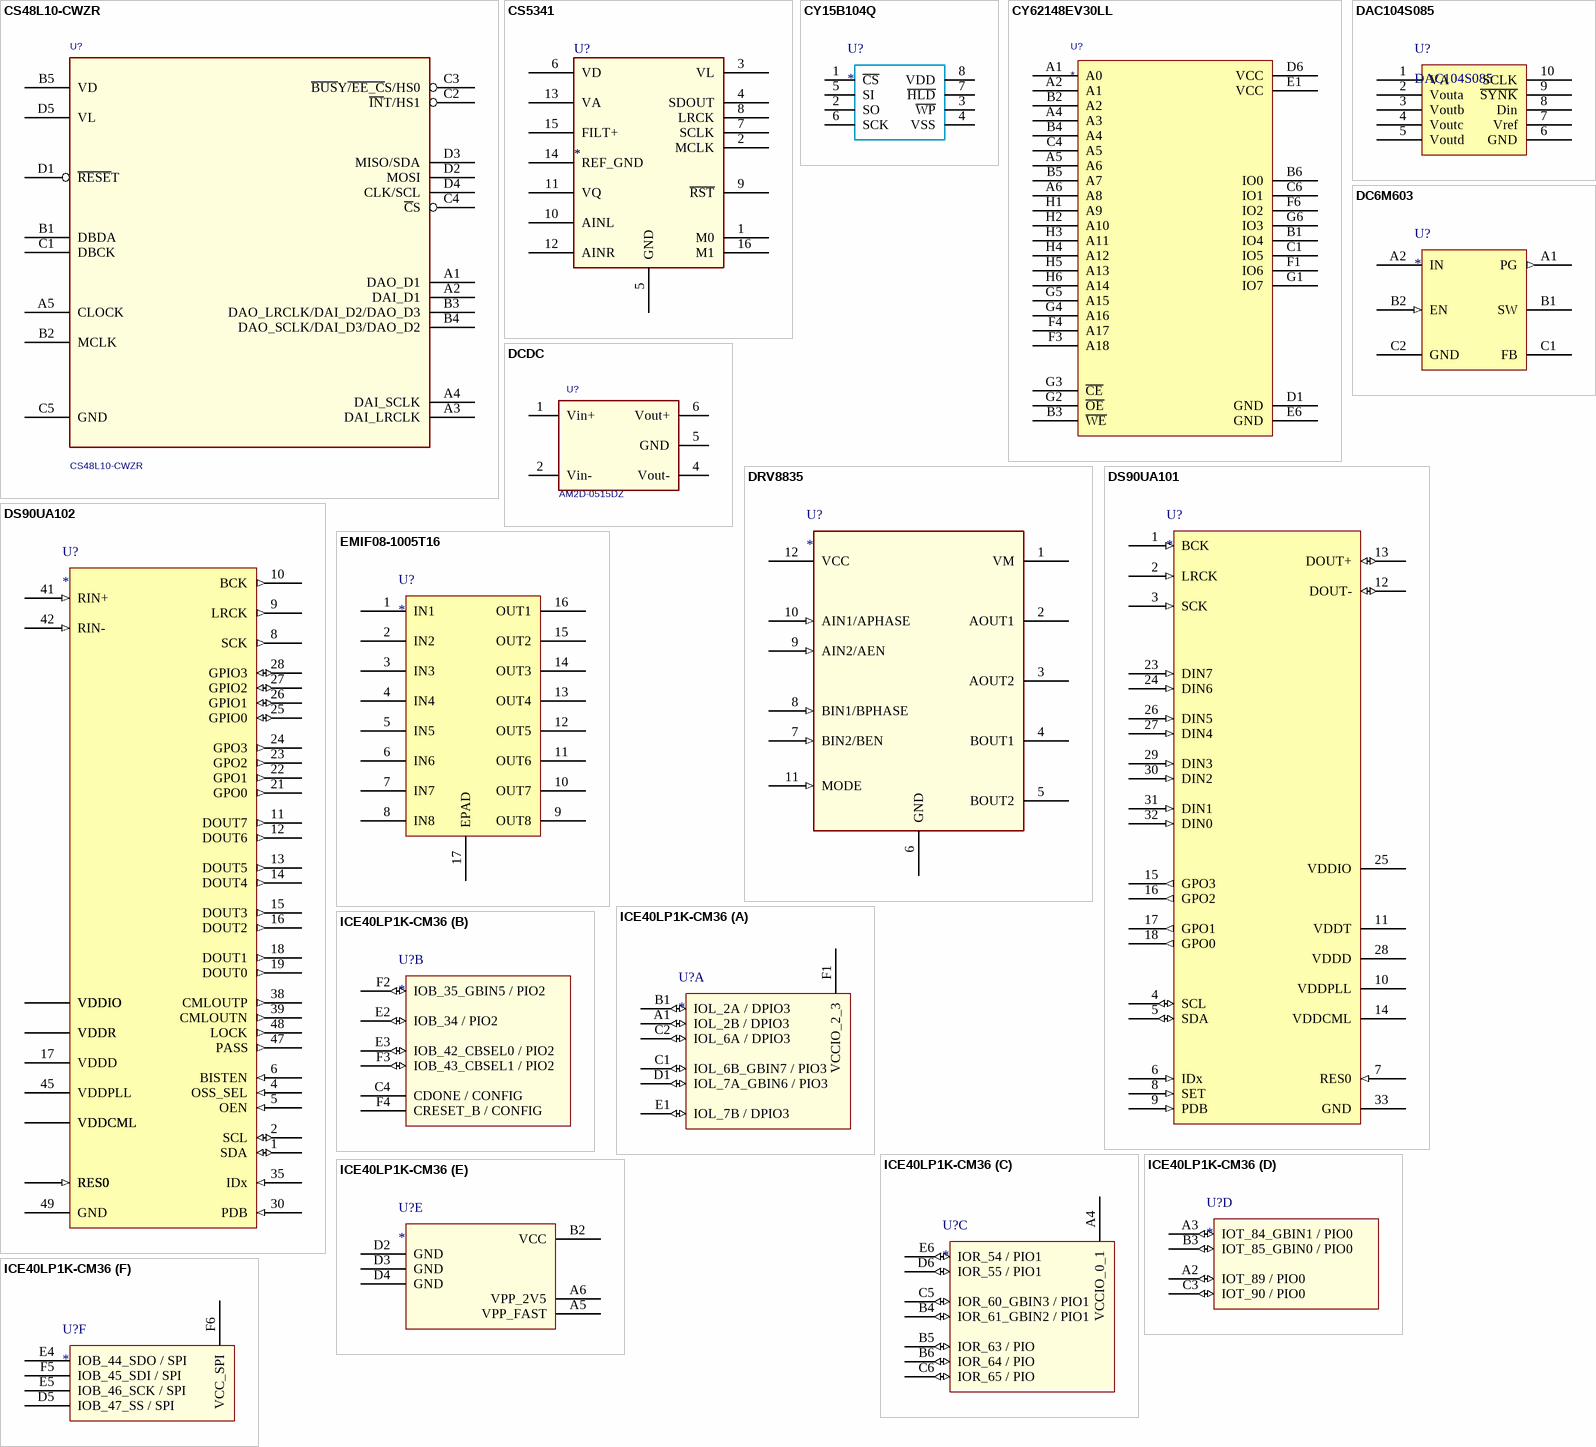
[diagram p12: symbols CS48L10-CWZR to ICE40LP1K-CM36]

## CS48L10-CWZR
designator U?
IC, ULTRALOW POWER VOICE AND AUDIO DSP SUBSYSTEM 130 MHz 32-BIT CORE 2.25x2mm, 20WLCSP, RoHS
pins: A1 DAO_D1, A2 DAI_D1, A3 DAI_LRCLK, A4 DAI_SCLK, A5 CLOCK, B1 DBDA, B2 MCLK, B3 DAO_LRCLK/DAI_D2/DAO_D3, B4 DAO_SCLK/DAI_D3/DAO_D2, B5 VD, C1 DBCK, C2 ~{IN}T/HS1, C3 ~{BUS}Y~{/EE_C}S/HS0, C4 ~{C}S, C5 GND, D1 ~{RESE}T, D2 MOSI, D3 MISO/SDA, D4 CLK/SCL, D5 VL

## CS5341
designator U?
pins: 1 M0 (power), 2 MCLK (power), 3 VL (power), 4 SDOUT (power), 5 GND (power), 6 VD (power), 7 SCLK (power), 8 LRCK (power), 9 ~{RST} (power), 10 AINL (power), 11 VQ (power), 12 AINR (power), 13 VA (power), 14 REF_GND (power), 15 FILT+ (power), 16 M1 (power)

## CY15B104Q
designator U?
pins: 1 ~{CS}, 2 SO, 3 ~{WP}, 4 VSS, 5 SI, 6 SCK, 7 ~{HLD}, 8 VDD (power)

## CY62148EV30LL
designator U?
4-Mbit (512 K ? 8) Static RAM
pins: A1 A0, A2 A1, A4 A3, A5 A6, A6 A8, B1 IO4, B2 A2, B3 ~{WE}, B4 A4, B5 A7, B6 IO0, C1 IO5, C4 A5, C6 IO1, D1 GND, D6 VCC, E1 VCC, E6 GND, F1 IO6, F3 A18, F4 A17, F6 IO2, G1 IO7, G2 ~{OE}, G3 ~{CE}, G4 A16, G5 A15, G6 IO3, H1 A9, H2 A10, H3 A11, H4 A12, H5 A13, H6 A14

## DAC104S085
designator U?
DAC 10bit SPI
pins: 1 VA, 2 Vouta, 3 Voutb, 4 Voutc, 5 Voutd, 6 GND, 7 Vref, 8 Din, 9 ~{SYNK}, 10 SCLK

## DC6M603
designator U?
pins: A1 PG (out), A2 IN (power), B1 SW, B2 EN (in), C1 FB, C2 GND

## DCDC
designator U?, comment AM2D-0515DZ
DCDC isolated; CRITICAL: NO; CLASS: IC; ROHS: YES
pins: 1 Vin+ (power), 2 Vin- (power), 4 Vout- (power), 5 GND (power), 6 Vout+ (power)

## DRV8835
designator U?
DUAL  LOW  VOLTAGE  H-BRIDGE  IC
pins: 1 VM (power), 2 AOUT1, 3 AOUT2, 4 BOUT1, 5 BOUT2, 6 GND, 7 BIN2/BEN (in), 8 BIN1/BPHASE (in), 9 AIN2/AEN (in), 10 AIN1/APHASE (in), 11 MODE (in), 12 VCC (power)

## DS90UA101
designator U?
TI Serializer I2C I2S GPI GPO 10-50 MHz
pins: 1 BCK (in), 2 LRCK (in), 3 SCK (in), 4 SCL (io), 5 SDA (io), 6 IDx (in), 7 RES0 (in), 8 SET (in), 9 PDB (in), 10 VDDPLL (power), 11 VDDT (power), 12 DOUT- (io), 13 DOUT+ (io), 14 VDDCML (power), 15 GPO3 (out), 16 GPO2 (out), 17 GPO1 (out), 18 GPO0 (out), 23 DIN7 (in), 24 DIN6 (in), 25 VDDIO (power), 26 DIN5 (in), 27 DIN4 (in), 28 VDDD (power), 29 DIN3 (in), 30 DIN2 (in), 31 DIN1 (in), 32 DIN0 (in), 33 GND (power)

## DS90UA102
designator U?
TI Deserializer I2C I2S GPI GPO 10-50 MHz
pins: 1 SDA (io), 2 SCL (io), 3 VDDR (power), 4 OSS_SEL (in), 5 OEN (in), 6 BISTEN (in), 7 VDDIO (power), 8 SCK (out), 9 LRCK (out), 10 BCK (out), 11 DOUT7 (out), 12 DOUT6 (out), 13 DOUT5 (out), 14 DOUT4 (out), 15 DOUT3 (out), 16 DOUT2 (out), 17 VDDD (power), 18 DOUT1 (out), 19 DOUT0 (out), 20 VDDIO (power), 21 GPO0 (out), 22 GPO1 (out), 23 GPO2 (out), 24 GPO3 (out), 25 GPIO0 (io), 26 GPIO1 (io), 27 GPIO2 (io), 28 GPIO3 (io), 29 VDDIO (power), 30 PDB (in), 31 VDDCML (power), 34 RES0 (in), 35 IDx (in), 36 VDDR (power), 37 RES0 (in), 38 CMLOUTP (out), 39 CMLOUTN (out), 40 VDDCML (power), 41 RIN+ (in), 42 RIN- (in), 43 RES0 (in), 44 RES0 (in), 45 VDDPLL (power), 46 RES0 (in), 47 PASS (out), 48 LOCK (out), 49 GND (power)

## EMIF08-1005T16
designator U?
ESD protection
pins: 1 IN1, 2 IN2, 3 IN3, 4 IN4, 5 IN5, 6 IN6, 7 IN7, 8 IN8, 9 OUT8, 10 OUT7, 11 OUT6, 12 OUT5, 13 OUT4, 14 OUT3, 15 OUT2, 16 OUT1, 17 EPAD

## ICE40LP1K-CM36
designator U?
CPLD
part A pins: A1 IOL_2B / DPIO3 (io), B1 IOL_2A / DPIO3 (io), C1 IOL_6B_GBIN7 / PIO3 (io), C2 IOL_6A / DPIO3 (io), D1 IOL_7A_GBIN6 / PIO3 (io), E1 IOL_7B / DPIO3 (io), F1 VCCIO_2_3
part B pins: C4 CDONE / CONFIG (power), E2 IOB_34 / PIO2 (io), E3 IOB_42_CBSEL0 / PIO2 (io), F2 IOB_35_GBIN5 / PIO2 (io), F3 IOB_43_CBSEL1 / PIO2 (io), F4 CRESET_B / CONFIG (power)
part C pins: A4 VCCIO_0_1, B4 IOR_61_GBIN2 / PIO1 (io), B5 IOR_63 / PIO (io), B6 IOR_64 / PIO (io), C5 IOR_60_GBIN3 / PIO1 (io), C6 IOR_65 / PIO (io), D6 IOR_55 / PIO1 (io), E6 IOR_54 / PIO1 (io)
part D pins: A2 IOT_89 / PIO0 (io), A3 IOT_84_GBIN1 / PIO0 (io), B3 IOT_85_GBIN0 / PIO0 (io), C3 IOT_90 / PIO0 (io)
part E pins: A5 VPP_FAST, A6 VPP_2V5 (power), B2 VCC (power), D2 GND (power), D3 GND (power), D4 GND (power)
part F pins: D5 IOB_47_SS / SPI (power), E4 IOB_44_SDO / SPI (power), E5 IOB_46_SCK / SPI (power), F5 IOB_45_SDI / SPI (power), F6 VCC_SPI (power)

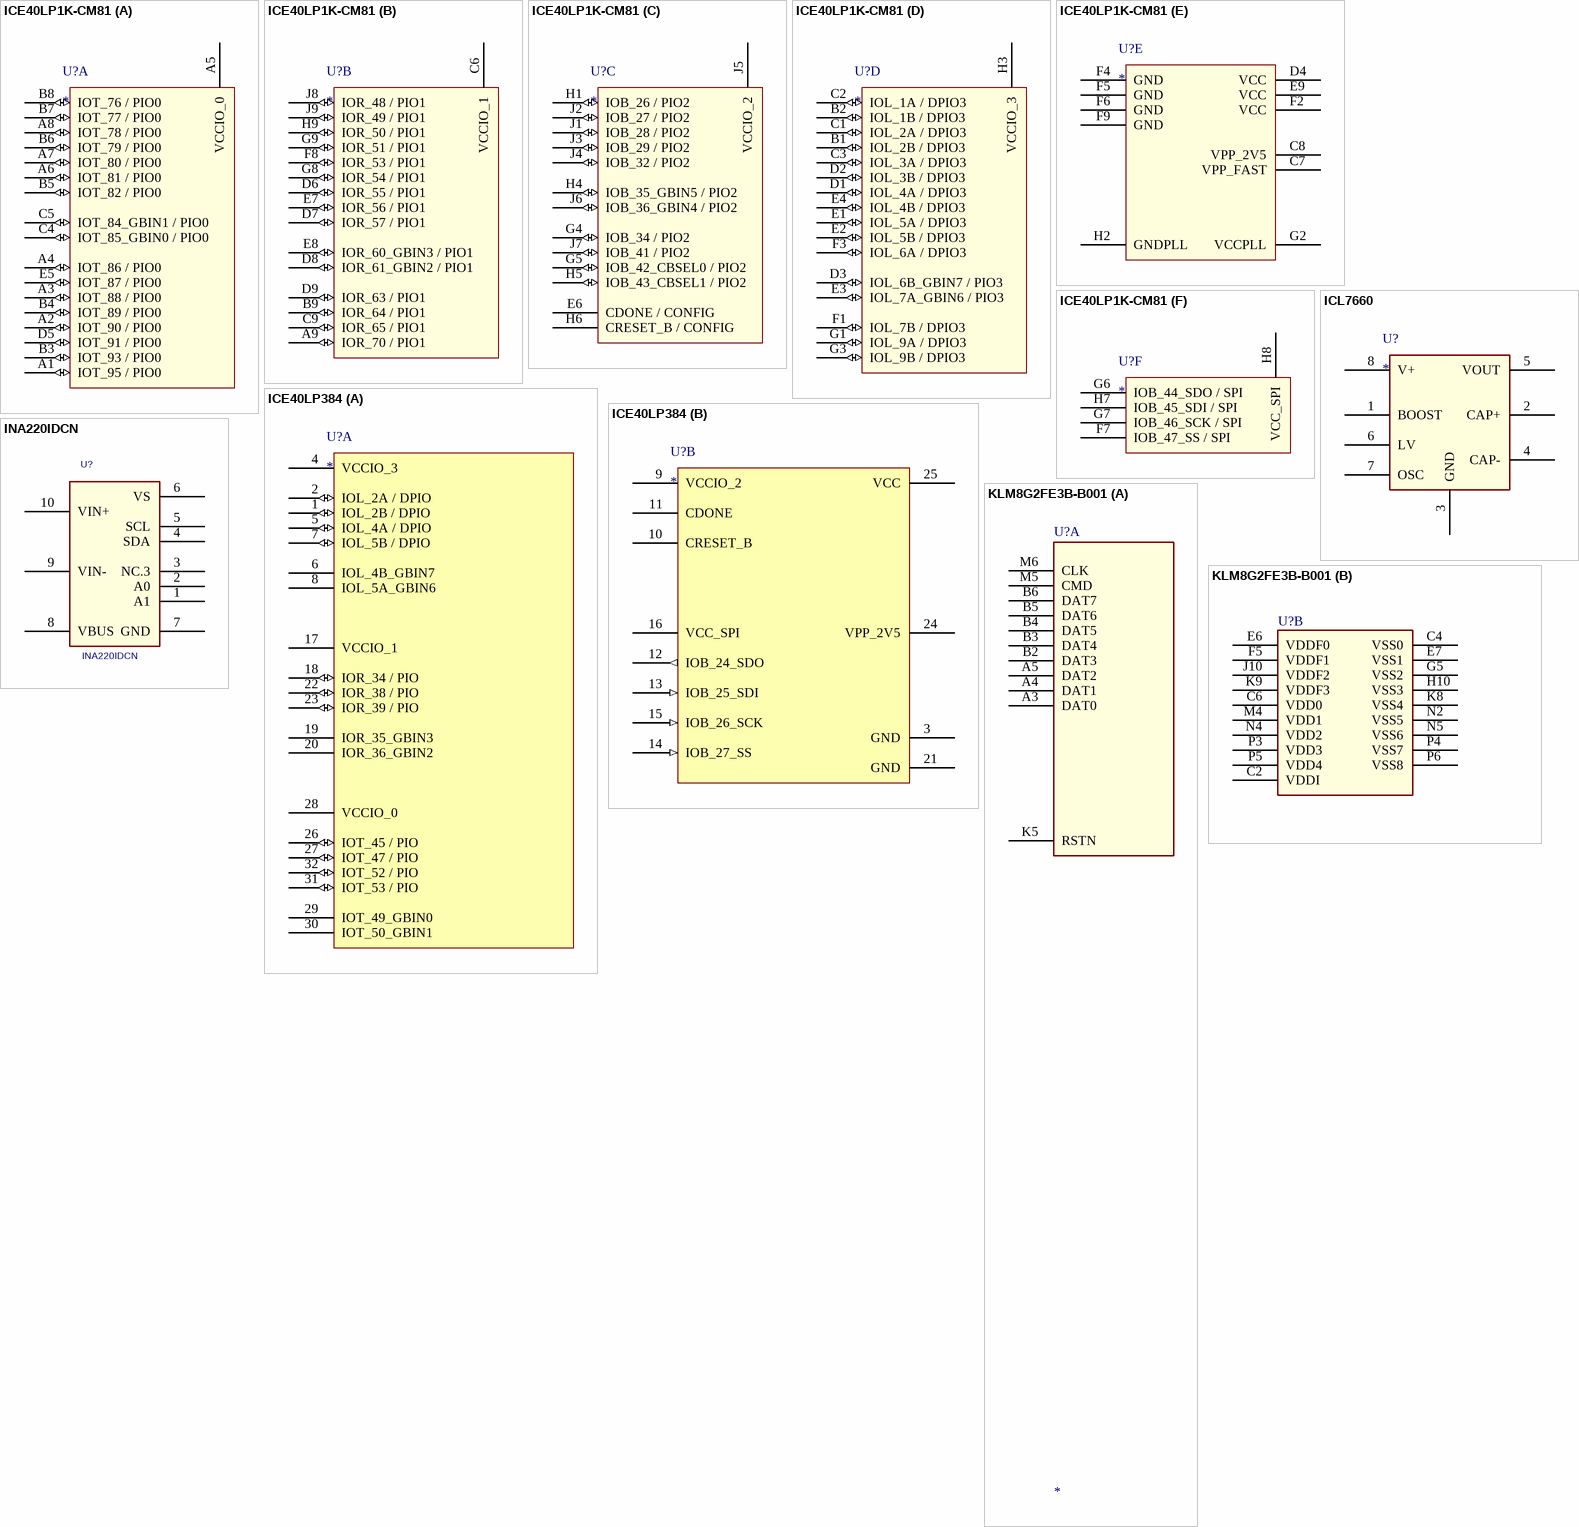
[diagram p13: symbols ICE40LP1K-CM81 to KLM8G2FE3B-B001]

## ICE40LP1K-CM81
designator U?
part A pins: A1 IOT_95 / PIO0 (io), A2 IOT_90 / PIO0 (io), A3 IOT_88 / PIO0 (io), A4 IOT_86 / PIO0 (io), A5 VCCIO_0 (power), A6 IOT_81 / PIO0 (io), A7 IOT_80 / PIO0 (io), A8 IOT_78 / PIO0 (io), B3 IOT_93 / PIO0 (io), B4 IOT_89 / PIO0 (io), B5 IOT_82 / PIO0 (io), B6 IOT_79 / PIO0 (io), B7 IOT_77 / PIO0 (io), B8 IOT_76 / PIO0 (io), C4 IOT_85_GBIN0 / PIO0 (io), C5 IOT_84_GBIN1 / PIO0 (io), D5 IOT_91 / PIO0 (io), E5 IOT_87 / PIO0 (io)
part B pins: A9 IOR_70 / PIO1 (io), B9 IOR_64 / PIO1 (io), C6 VCCIO_1 (power), C9 IOR_65 / PIO1 (io), D6 IOR_55 / PIO1 (io), D7 IOR_57 / PIO1 (io), D8 IOR_61_GBIN2 / PIO1 (io), D9 IOR_63 / PIO1 (io), E7 IOR_56 / PIO1 (io), E8 IOR_60_GBIN3 / PIO1 (io), F8 IOR_53 / PIO1 (io), G8 IOR_54 / PIO1 (io), G9 IOR_51 / PIO1 (io), H9 IOR_50 / PIO1 (io), J8 IOR_48 / PIO1 (io), J9 IOR_49 / PIO1 (io)
part C pins: E6 CDONE / CONFIG, G4 IOB_34 / PIO2 (io), G5 IOB_42_CBSEL0 / PIO2 (io), H1 IOB_26 / PIO2 (io), H4 IOB_35_GBIN5 / PIO2 (io), H5 IOB_43_CBSEL1 / PIO2 (io), H6 CRESET_B / CONFIG, J1 IOB_28 / PIO2 (io), J2 IOB_27 / PIO2 (io), J3 IOB_29 / PIO2 (io), J4 IOB_32 / PIO2 (io), J5 VCCIO_2 (power), J6 IOB_36_GBIN4 / PIO2 (io), J7 IOB_41 / PIO2 (io)
part D pins: B1 IOL_2B / DPIO3 (io), B2 IOL_1B / DPIO3 (io), C1 IOL_2A / DPIO3 (io), C2 IOL_1A / DPIO3 (io), C3 IOL_3A / DPIO3 (io), D1 IOL_4A / DPIO3 (io), D2 IOL_3B / DPIO3 (io), D3 IOL_6B_GBIN7 / PIO3 (io), E1 IOL_5A / DPIO3 (io), E2 IOL_5B / DPIO3 (io), E3 IOL_7A_GBIN6 / PIO3 (io), E4 IOL_4B / DPIO3 (io), F1 IOL_7B / DPIO3 (io), F3 IOL_6A / DPIO3 (io), G1 IOL_9A / DPIO3 (io), G3 IOL_9B / DPIO3 (io), H3 VCCIO_3 (power)
part E pins: C7 VPP_FAST, C8 VPP_2V5, D4 VCC, E9 VCC, F2 VCC, F4 GND (power), F5 GND (power), F6 GND (power), F9 GND (power), G2 VCCPLL, H2 GNDPLL
part F pins: F7 IOB_47_SS / SPI, G6 IOB_44_SDO / SPI, G7 IOB_46_SCK / SPI, H7 IOB_45_SDI / SPI, H8 VCC_SPI

## ICE40LP384
designator U?
part A pins: 1 IOL_2B / DPIO (io), 2 IOL_2A / DPIO (io), 4 VCCIO_3 (power), 5 IOL_4A / DPIO (io), 6 IOL_4B_GBIN7, 7 IOL_5B / DPIO (io), 8 IOL_5A_GBIN6, 17 VCCIO_1 (power), 18 IOR_34 / PIO (io), 19 IOR_35_GBIN3, 20 IOR_36_GBIN2, 22 IOR_38 / PIO (io), 23 IOR_39 / PIO (io), 26 IOT_45 / PIO (io), 27 IOT_47 / PIO (io), 28 VCCIO_0 (power), 29 IOT_49_GBIN0, 30 IOT_50_GBIN1, 31 IOT_53 / PIO (io), 32 IOT_52 / PIO (io)
part B pins: 3 GND (power), 9 VCCIO_2 (power), 10 CRESET_B, 11 CDONE, 12 IOB_24_SDO (out), 13 IOB_25_SDI (in), 14 IOB_27_SS (in), 15 IOB_26_SCK (in), 16 VCC_SPI (power), 21 GND (power), 24 VPP_2V5 (power), 25 VCC (power)

## ICL7660
designator U?
Switched-Capacitor Voltage converter
pins: 1 BOOST, 2 CAP+, 4 CAP-, 5 VOUT (power), 6 LV, 7 OSC, 8 V+ (power),  3 GND

## INA220IDCN
designator U?
pins: 1 A1, 2 A0, 3 NC.3, 4 SDA, 5 SCL, 6 VS, 7 GND, 8 VBUS, 9 VIN-, 10 VIN+

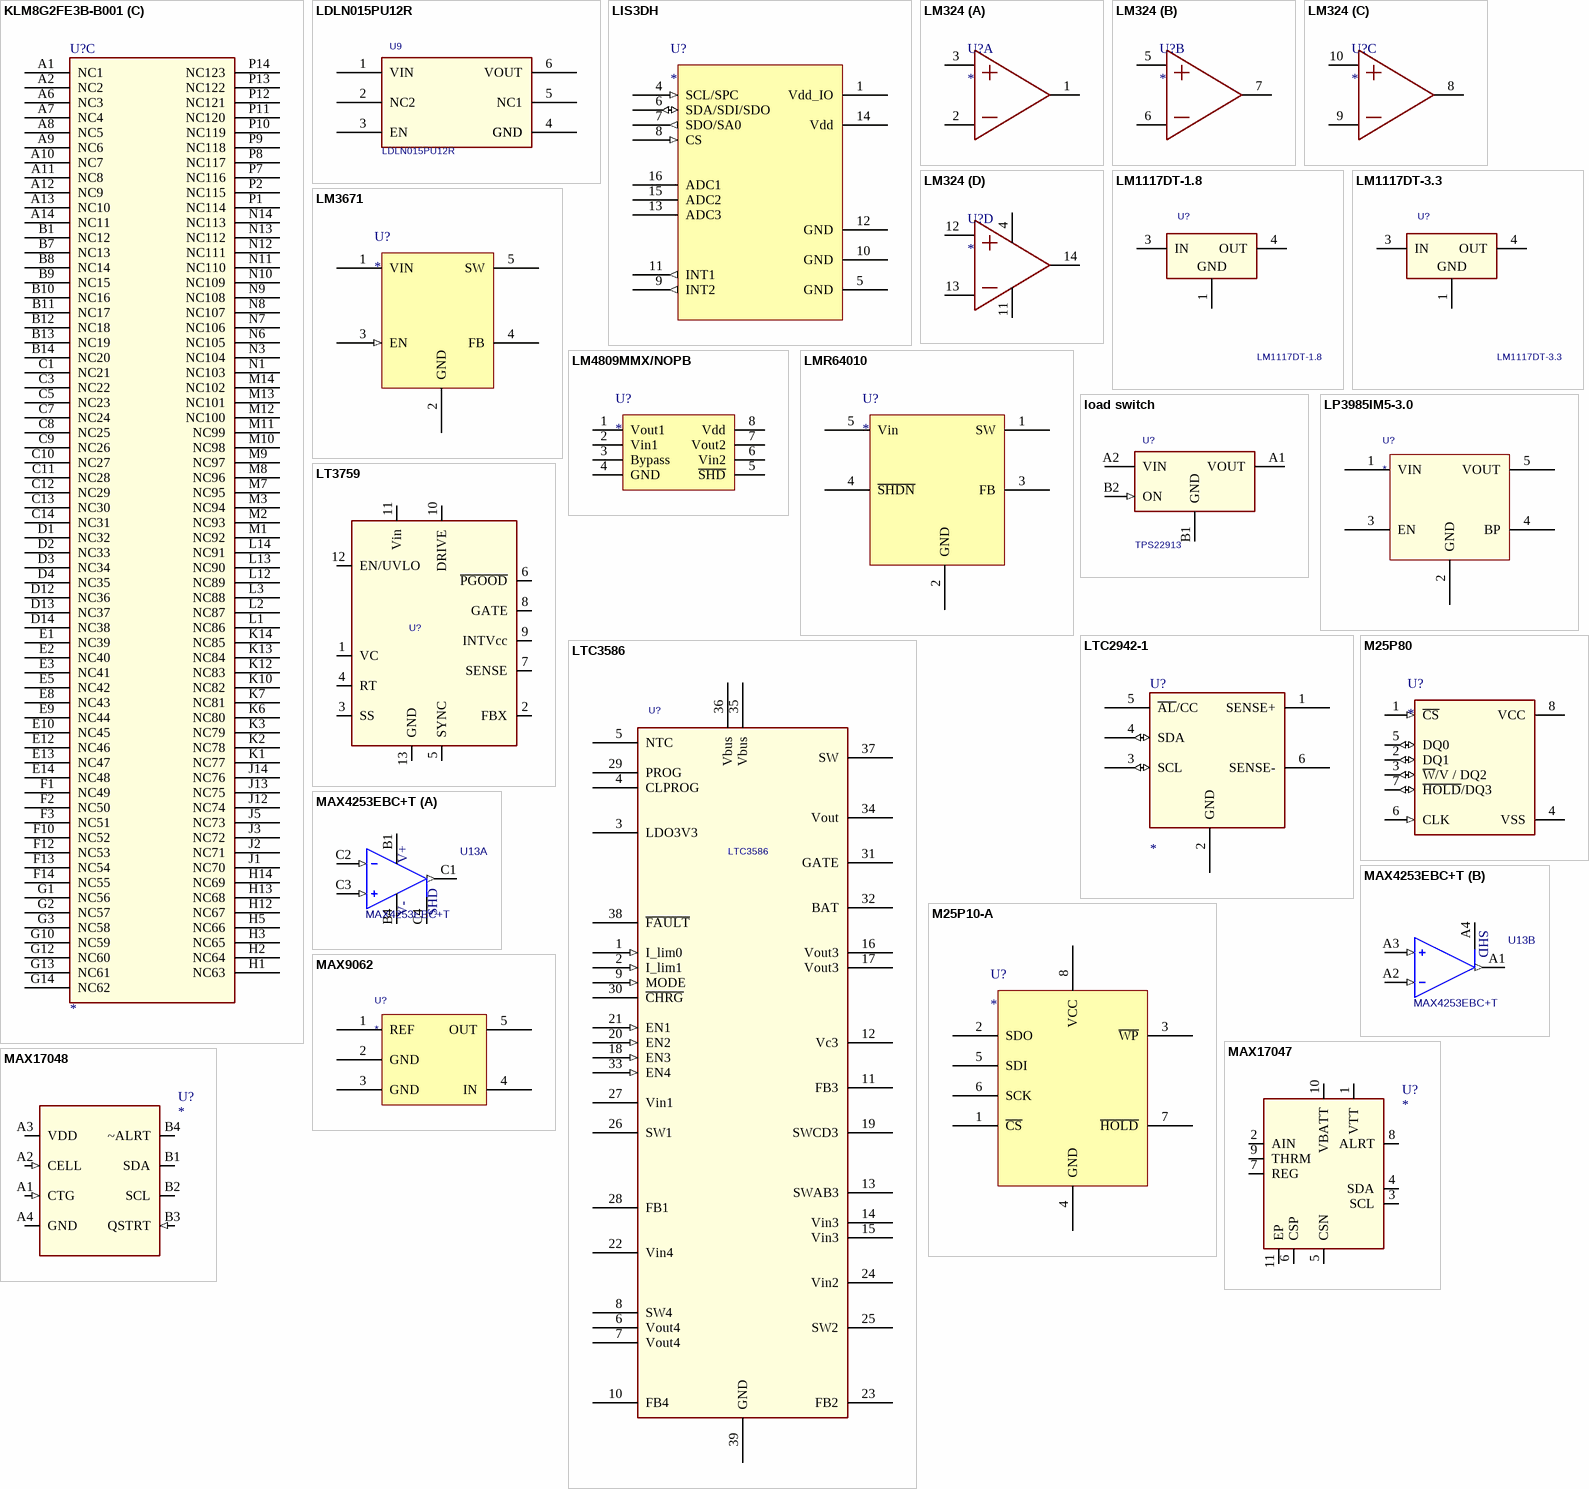
[diagram p14: symbols KLM8G2FE3B-B001 to MAX17048]

## KLM8G2FE3B-B001
designator U?
SWAP_INFO: (S1+S2+S3); SPLIT_INST: TRUE
part A pins: A3 DAT0, A4 DAT1, A5 DAT2, B2 DAT3, B3 DAT4, B4 DAT5, B5 DAT6, B6 DAT7, K5 RSTN, M5 CMD, M6 CLK
part B pins: C2 VDDI, C4 VSS0, C6 VDD0, E6 VDDF0, E7 VSS1, F5 VDDF1, G5 VSS2, H10 VSS3, J10 VDDF2, K8 VSS4, K9 VDDF3, M4 VDD1, N2 VSS5, N4 VDD2, N5 VSS6, P3 VDD3, P4 VSS7, P5 VDD4, P6 VSS8
part C pins: A1 NC1, A2 NC2, A6 NC3, A7 NC4, A8 NC5, A9 NC6, A10 NC7, A11 NC8, A12 NC9, A13 NC10, A14 NC11, B1 NC12, B7 NC13, B8 NC14, B9 NC15, B10 NC16, B11 NC17, B12 NC18, B13 NC19, B14 NC20, C1 NC21, C3 NC22, C5 NC23, C7 NC24, C8 NC25, C9 NC26, C10 NC27, C11 NC28, C12 NC29, C13 NC30, C14 NC31, D1 NC32, D2 NC33, D3 NC34, D4 NC35, D12 NC36, D13 NC37, D14 NC38, E1 NC39, E2 NC40, E3 NC41, E5 NC42, E8 NC43, E9 NC44, E10 NC45, E12 NC46, E13 NC47, E14 NC48, F1 NC49, F2 NC50, F3 NC51, F10 NC52, F12 NC53, F13 NC54, F14 NC55, G1 NC56, G2 NC57, G3 NC58, G10 NC59, G12 NC60, G13 NC61, G14 NC62, H1 NC63, H2 NC64, H3 NC65, H5 NC66, H12 NC67, H13 NC68, H14 NC69, J1 NC70, J2 NC71, J3 NC72, J5 NC73, J12 NC74, J13 NC75, J14 NC76, K1 NC77, K2 NC78, K3 NC79, K6 NC80, K7 NC81, K10 NC82, K12 NC83, K13 NC84, K14 NC85, L1 NC86, L2 NC87, L3 NC88, L12 NC89, L13 NC90, L14 NC91, M1 NC92, M2 NC93, M3 NC94, M7 NC95, M8 NC96, M9 NC97, M10 NC98, M11 NC99, M12 NC100, M13 NC101, M14 NC102, N1 NC103, N3 NC104, N6 NC105, N7 NC106, N8 NC107, N9 NC108, N10 NC109, N11 NC110, N12 NC111, N13 NC112, N14 NC113, P1 NC114, P2 NC115, P7 NC116, P8 NC117, P9 NC118, P10 NC119, P11 NC120, P12 NC121, P13 NC122, P14 NC123

## LDLN015PU12R
designator U9
IC, 150mA ULTRA LOW NOISE HIGH PSRR LDO 2x2mm, 2.1 - 5.5VIN, 150mA, 1.2VOUT, 6-DFN, RoHS; MANUFACTURE: STMICROELECTRONICS; CRITICAL: YES; PART_NUMBER: LDLN015PU12R; CLASS: IC; ROHS: YES; PACKAGE_SIZE: 6-DFN
footprint 6-DFN
pins: 1 VIN, 2 NC2, 3 EN, 4 GND, 5 NC1, 6 VOUT, 7 GND

## LIS3DH
designator U?
pins: 1 Vdd_IO, 4 SCL/SPC (in), 5 GND, 6 SDA/SDI/SDO (io), 7 SDO/SA0 (out), 8 CS (in), 9 INT2 (out), 10 GND, 11 INT1 (out), 12 GND, 13 ADC3, 14 Vdd, 15 ADC2, 16 ADC1

## LM324
designator U?
Op Amp
part A pins: 1 out, 2 -, 3 +
part B pins: 5 +, 6 -, 7 out
part C pins: 8 out, 9 -, 10 +
part D pins: 4 VCC (power), 11 GND (power), 12 +, 13 -, 14 out

## LM1117DT-1.8
designator U?
800mA Low-Dropout Linear Regulator, 3-pin TO-252
pins: 1 GND (power), 3 IN (power), 4 OUT (power)

## LM1117DT-3.3
designator U?
800mA Low-Dropout Linear Regulator, 3-pin TO-252
pins: 1 GND (power), 3 IN (power), 4 OUT (power)

## LM3671
designator U?
Step-Down DC-DC Converter
pins: 1 VIN (power), 2 GND, 3 EN (in), 4 FB, 5 SW

## LM4809MMX/NOPB
designator U?
pins: 1 Vout1, 2 Vin1, 3 Bypass, 4 GND, 5 ~{SHD}, 6 Vin2, 7 Vout2, 8 Vdd

## LMR64010
designator U?
SIMPLE SWITCHER 40Vout, 1A Step-Up Voltage Regulator in SOT-23
pins: 1 SW, 2 GND, 3 FB, 4 ~{SHDN}, 5 Vin

## load switch
designator U?, comment TPS22913
CRITICAL: NO; CLASS: IC; ROHS: YES
pins: A1 VOUT (power), A2 VIN (power), B1 GND (power), B2 ON (in)

## LP3985IM5-3.0
designator U?
r, 150mA Low-Noise Ultra Low-Dropout CMOS Voltage Regulator
pins: 1 VIN, 2 GND, 3 EN, 4 BP, 5 VOUT

## LT3759
designator U?
IC REG CTRLR BST INV PWM 12-MSOP
pins: 1 VC, 2 FBX, 3 SS, 4 RT, 5 SYNC, 6 ~{PGOOD}, 7 SENSE, 8 GATE, 9 INTVcc, 10 DRIVE, 11 Vin, 12 EN/UVLO, 13 GND

## LTC2942-1
designator U?
1A Battery Gas Gauge with   Internal Sense Resistor and   Temperature/Voltage   Measurement
pins: 1 SENSE+, 2 GND, 3 SCL (io), 4 SDA (io), 5 ~{AL}/CC (oc), 6 SENSE-

## LTC3586
designator U?
USB Power   Manager with Boost,   Buck-Boost and Dual Bucks
pins: 1 I_lim0 (in), 2 I_lim1 (in), 3 LDO3V3 (power), 4 CLPROG, 5 NTC, 6 Vout4 (power), 7 Vout4 (power), 8 SW4, 9 MODE (in), 10 FB4, 11 FB3, 12 Vc3, 13 SWAB3, 14 Vin3 (power), 15 Vin3 (power), 16 Vout3 (power), 17 Vout3 (power), 18 EN3 (in), 19 SWCD3, 20 EN2 (in), 21 EN1 (in), 22 Vin4, 23 FB2, 24 Vin2 (power), 25 SW2, 26 SW1, 27 Vin1 (power), 28 FB1, 29 PROG, 30 ~{CHRG} (oc), 31 GATE, 32 BAT, 33 EN4 (in), 34 Vout (power), 35 Vbus, 36 Vbus, 37 SW, 38 ~{FAULT} (oc), 39 GND

## M25P10-A
designator U?
pins: 1 ~{CS}, 2 SDO, 3 ~{WP}, 4 GND, 5 SDI, 6 SCK, 7 ~{HOLD}, 8 VCC

## M25P80
designator U?
128 Mbit SPI Flash
pins: 1 ~{CS} (in), 2 DQ1 (io), 3 ~{W}/V / DQ2 (io), 4 VSS (power), 5 DQ0 (io), 6 CLK (in), 7 ~{HOLD}/DQ3 (io), 8 VCC (power)

## MAX4253EBC+T
designator U13
Dual opamps
part A pins: B1 Vcc+ (power), B4 Vcc- (power), C1 OUT1 (out), C2 IN1+ (in), C3 IN1- (in), C4 SHD_N (power)
part B pins: A1 OUT2 (out), A2 IN2- (in), A3 IN2+ (in), A4 SHD_N (power)
1 alternate drawing of the same symbol
part A text: V+; V-; SHD
part B text: SHD

## MAX9062
designator U?
Low-Power Single  Comparator
pins: 1 REF, 2 GND, 3 GND, 4 IN, 5 OUT

## MAX17047
designator U?
footprint WLP-8
pins: 1 VTT, 2 AIN, 3 SCL, 4 SDA, 5 CSN, 6 CSP, 7 REG, 8 ALRT, 9 THRM, 10 VBATT, 11 EP

## MAX17048
designator U?
MAX17048
pins: A1 CTG (in), A2 CELL (in), A3 VDD (power), A4 GND (power), B1 SDA (io), B2 SCL (io), B3 QSTRT (in), B4 ~ALRT (oc)

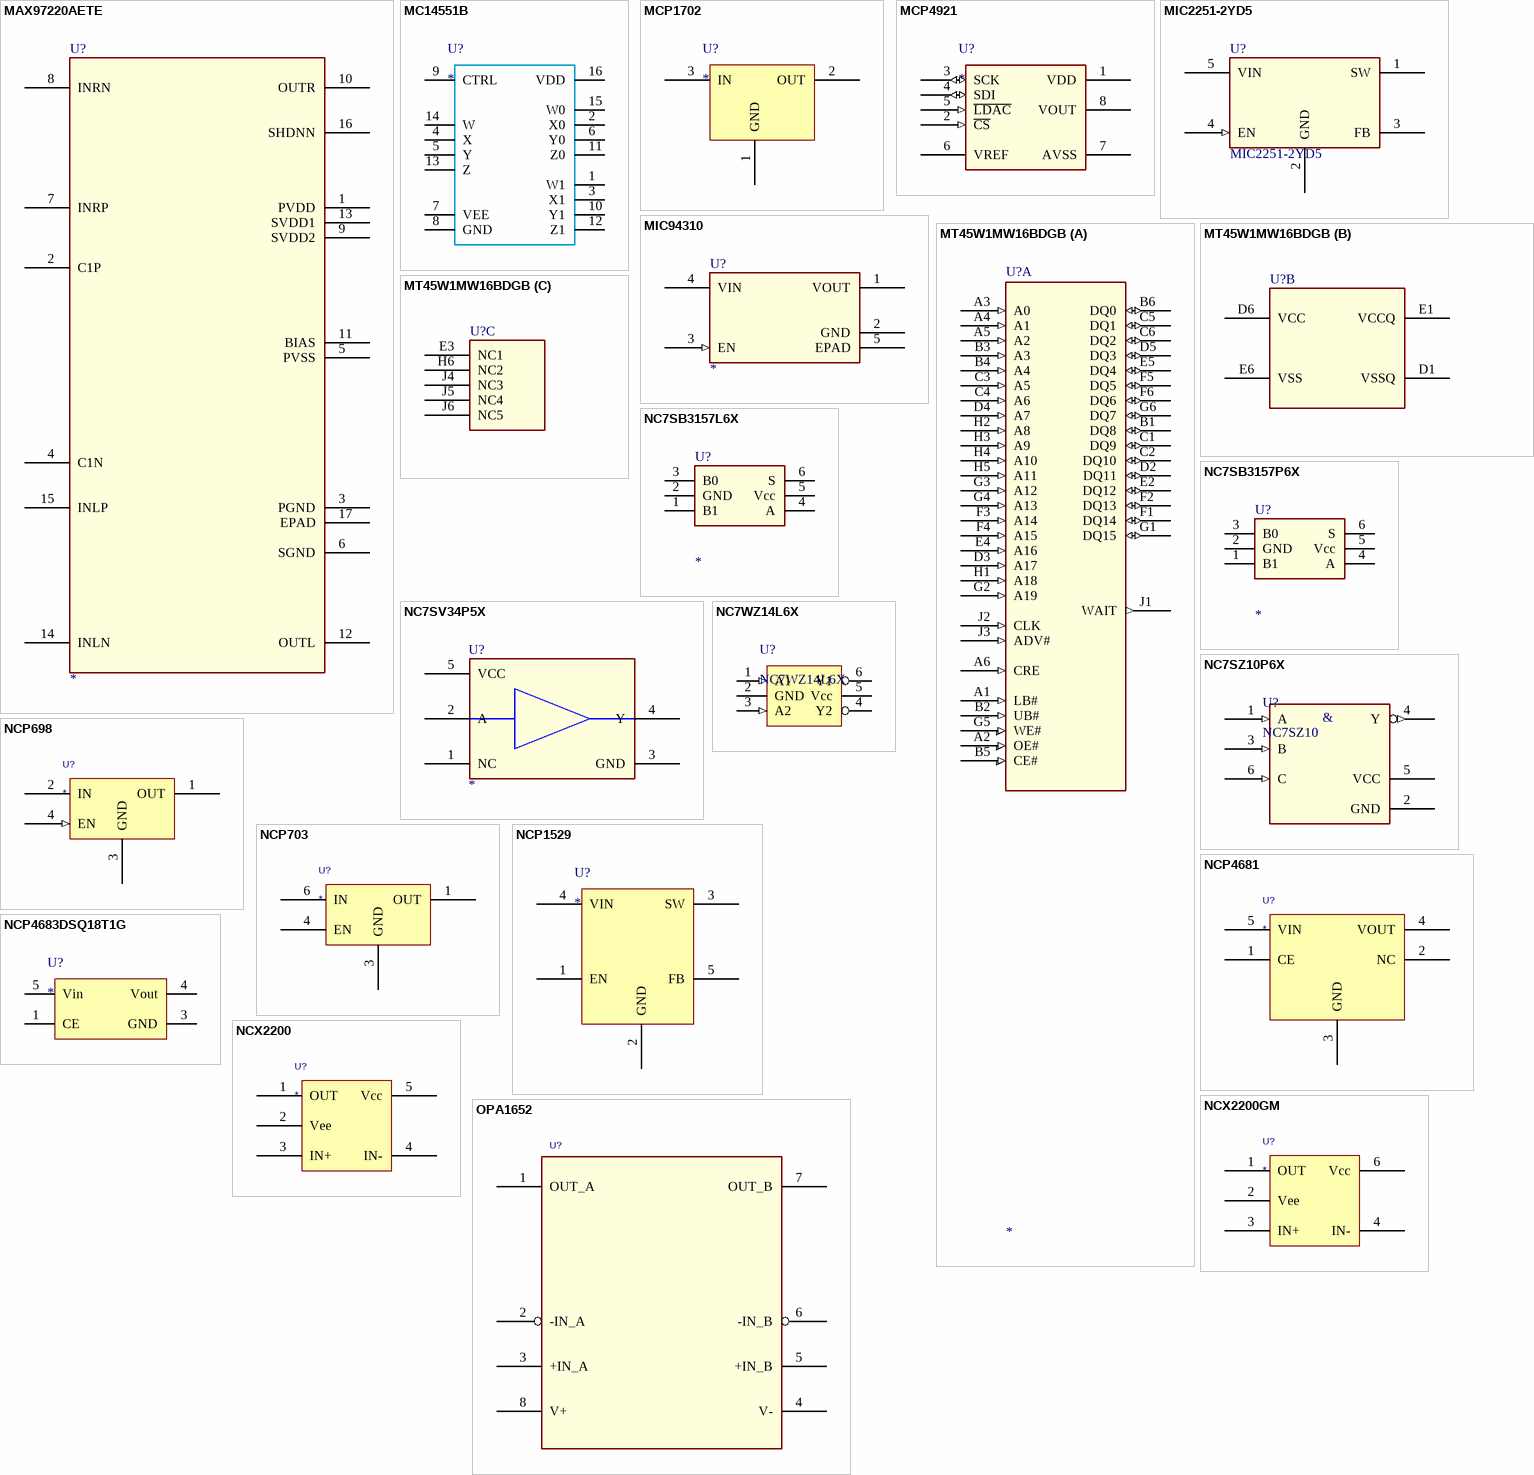
[diagram p15: symbols MAX97220AETE to OPA1652]

## MAX97220AETE
designator U?
pins: 1 PVDD, 2 C1P, 3 PGND, 4 C1N, 5 PVSS, 6 SGND, 7 INRP, 8 INRN, 9 SVDD2, 10 OUTR, 11 BIAS, 12 OUTL, 13 SVDD1, 14 INLN, 15 INLP, 16 SHDNN, 17 EPAD

## MC14551B
designator U?
pins: 1 W1, 2 X0, 3 X1, 4 X, 5 Y, 6 Y0, 7 VEE, 8 GND, 9 CTRL, 10 Y1, 11 Z0, 12 Z1, 13 Z, 14 W, 15 W0, 16 VDD

## MCP1702
designator U?
250 mA Low Quiescent Current LDO Regulator
pins: 1 GND, 2 OUT, 3 IN

## MCP4921
designator U?
12-bit DAC with SPI
pins: 1 VDD (power), 2 ~{CS} (in), 3 SCK (io), 4 SDI (io), 5 ~{LDAC} (in), 6 VREF, 7 AVSS, 8 VOUT

## MIC2251-2YD5
designator U?
IC REG BOOST ADJ 40MA SOT23-5
pins: 1 SW (power), 2 GND (power), 3 FB, 4 EN (in), 5 VIN (power)

## MIC94310
designator U?
pins: 1 VOUT (power), 2 GND (power), 3 EN (in), 4 VIN (power), 5 EPAD (power)